# Altium schematic symbol library Devzone_SCHLib.SchLib: 1101 symbols (part 9 of 11)
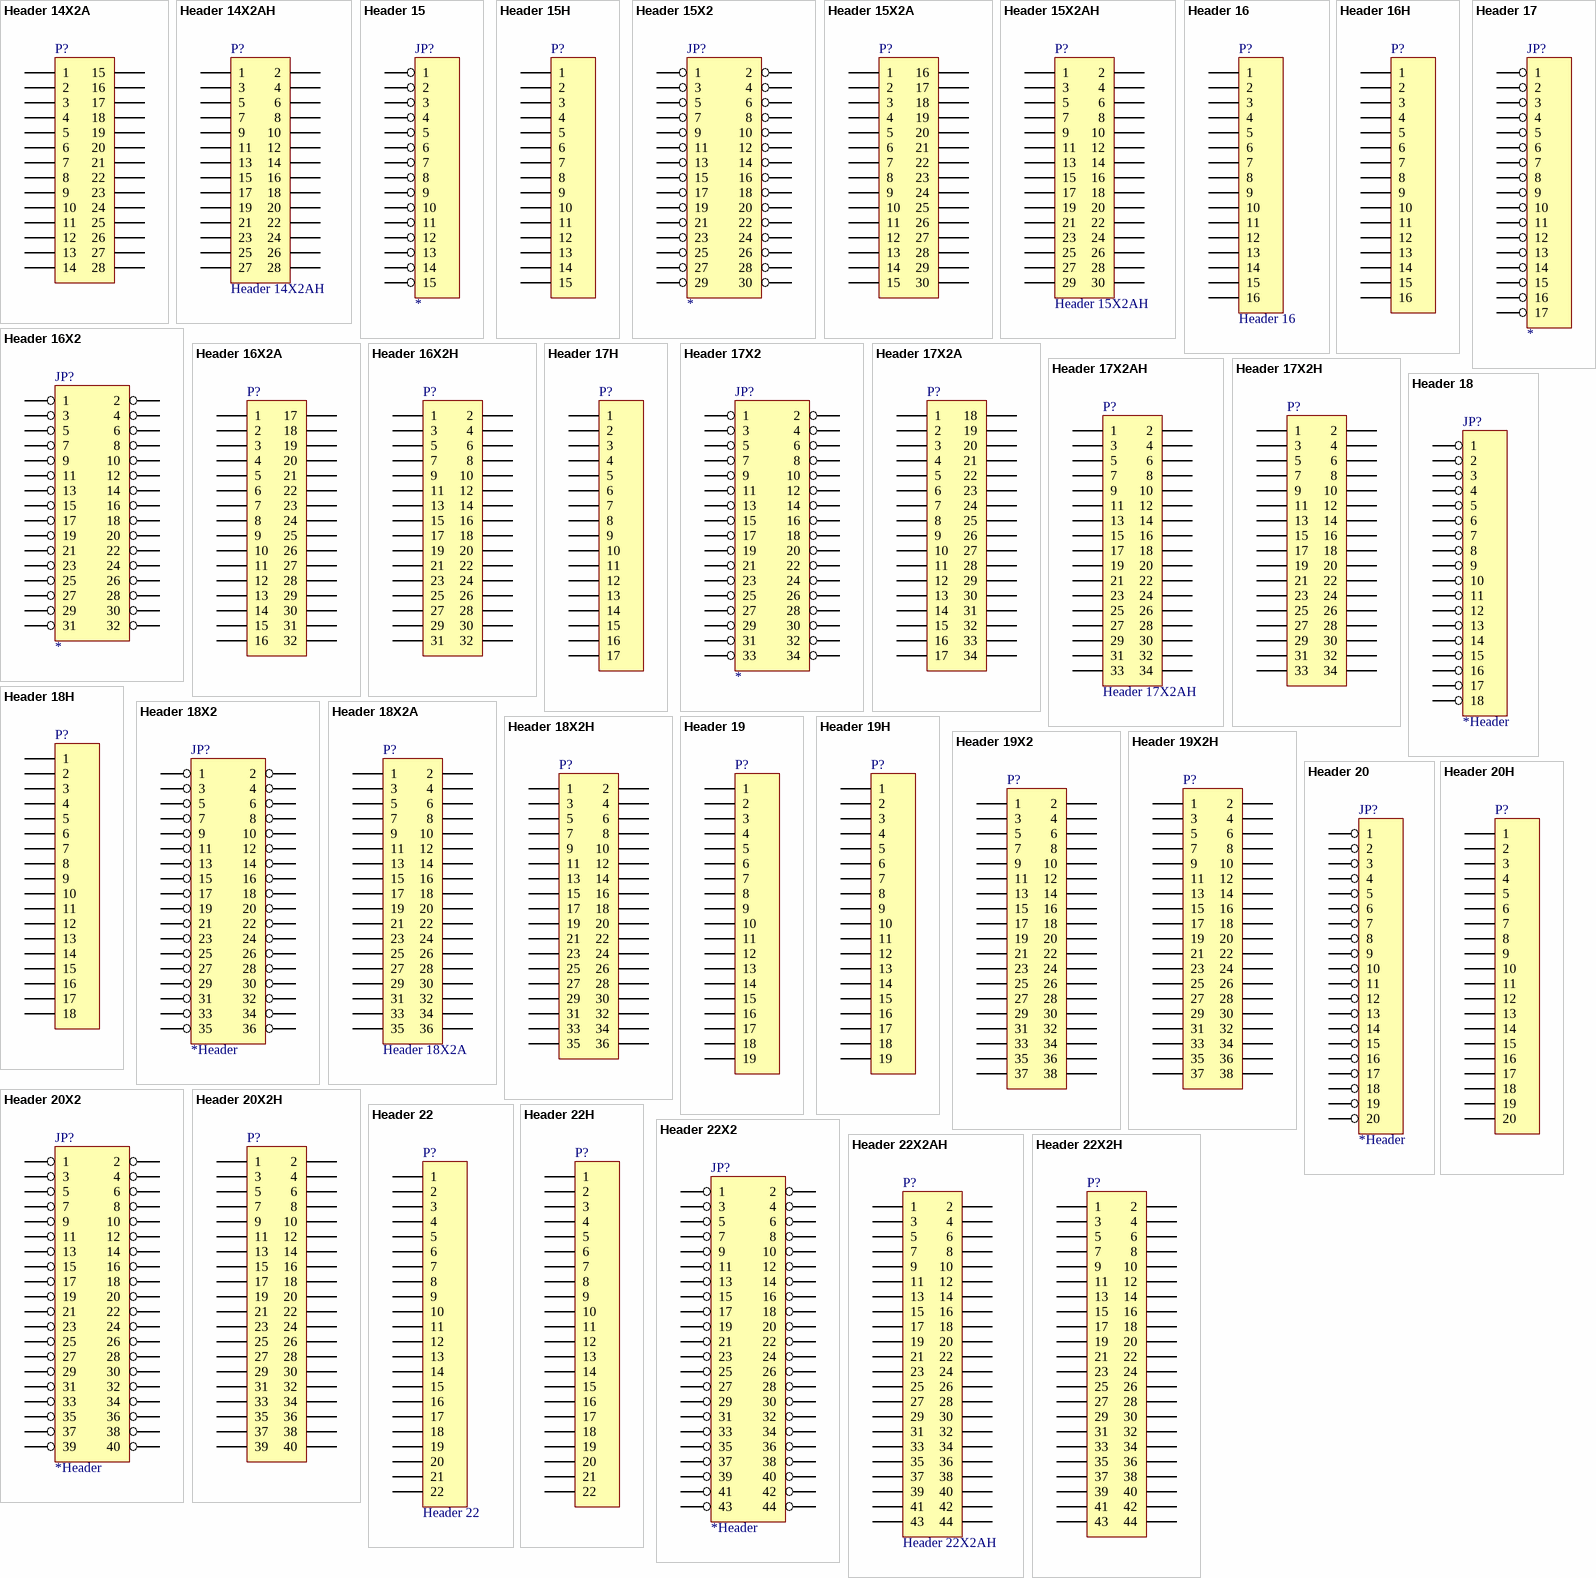
[diagram p54: symbols Header 14X2A to Header 22X2H]

## Header 20
designator JP?, comment *Header
Header, 20-Pin, Right Angle
pins: 1, 2, 3, 4, 5, 6, 7, 8, 9, 10, 11, 12, 13, 14, 15, 16, 17, 18, 19, 20

## Header 20H
designator P?
Header, 20-Pin, Right Angle; LatestRevisionDate: 17-Jul-2002; LatestRevisionNote: Re-released for DXP Platform.; Publisher: Altium Limited
footprint HDR1X20H (Connector; Header; 20 Position; Right Angle)
signal-integrity model Connector
pins: 1, 2, 3, 4, 5, 6, 7, 8, 9, 10, 11, 12, 13, 14, 15, 16, 17, 18, 19, 20

## Header 20X2
designator JP?, comment *Header
Header, 20X2-Pin, Right Angle
pins: 1, 2, 3, 4, 5, 6, 7, 8, 9, 10, 11, 12, 13, 14, 15, 16, 17, 18, 19, 20, 21, 22, 23, 24, 25, 26, 27, 28, 29, 30, 31, 32, 33, 34, 35, 36, 37, 38, 39, 40

## Header 20X2H
designator P?
Header, 20-Pin, Dual row, Right Angle; LatestRevisionDate: 17-Jul-2002; LatestRevisionNote: Re-released for DXP Platform.; Publisher: Altium Limited
footprint HDR2X20H (Connector; Header; 20x2 Position; Right Angle)
signal-integrity model Connector
pins: 1, 2, 3, 4, 5, 6, 7, 8, 9, 10, 11, 12, 13, 14, 15, 16, 17, 18, 19, 20, 21, 22, 23, 24, 25, 26, 27, 28, 29, 30, 31, 32, 33, 34, 35, 36, 37, 38, 39, 40

## Header 22
designator P?
Header, 22-Pin; LatestRevisionDate: 17-Jul-2002; LatestRevisionNote: Re-released for DXP Platform.; Publisher: Altium Limited
footprint HDR1X22 (Connector; Header; 22 Position)
signal-integrity model Connector
pins: 1, 2, 3, 4, 5, 6, 7, 8, 9, 10, 11, 12, 13, 14, 15, 16, 17, 18, 19, 20, 21, 22

## Header 22H
designator P?
Header, 22-Pin, Right Angle; LatestRevisionDate: 17-Jul-2002; LatestRevisionNote: Re-released for DXP Platform.; Publisher: Altium Limited
footprint HDR1X22H (Connector; Header; 22 Position; Right Angle)
signal-integrity model Connector
pins: 1, 2, 3, 4, 5, 6, 7, 8, 9, 10, 11, 12, 13, 14, 15, 16, 17, 18, 19, 20, 21, 22

## Header 22X2
designator JP?, comment *Header
Header, 22X2-Pin, Right Angle
pins: 1, 2, 3, 4, 5, 6, 7, 8, 9, 10, 11, 12, 13, 14, 15, 16, 17, 18, 19, 20, 21, 22, 23, 24, 25, 26, 27, 28, 29, 30, 31, 32, 33, 34, 35, 36, 37, 38, 39, 40, 41, 42, 43, 44

## Header 22X2AH
designator P?
Header, 22-Pin, Dual row; LatestRevisionDate: 17-Jul-2002; LatestRevisionNote: Re-released for DXP Platform.; Publisher: Altium Limited
footprint HDR2X22 (Connector; Header; 22x2 Position)
signal-integrity model Connector
pins: 1, 2, 3, 4, 5, 6, 7, 8, 9, 10, 11, 12, 13, 14, 15, 16, 17, 18, 19, 20, 21, 22, 23, 24, 25, 26, 27, 28, 29, 30, 31, 32, 33, 34, 35, 36, 37, 38, 39, 40, 41, 42, 43, 44

## Header 22X2H
designator P?
Header, 22-Pin, Dual row, Right Angle; LatestRevisionDate: 17-Jul-2002; LatestRevisionNote: Re-released for DXP Platform.; Publisher: Altium Limited
footprint HDR2X22H (Connector; Header; 22x2 Position; Right Angle)
signal-integrity model Connector
pins: 1, 2, 3, 4, 5, 6, 7, 8, 9, 10, 11, 12, 13, 14, 15, 16, 17, 18, 19, 20, 21, 22, 23, 24, 25, 26, 27, 28, 29, 30, 31, 32, 33, 34, 35, 36, 37, 38, 39, 40, 41, 42, 43, 44

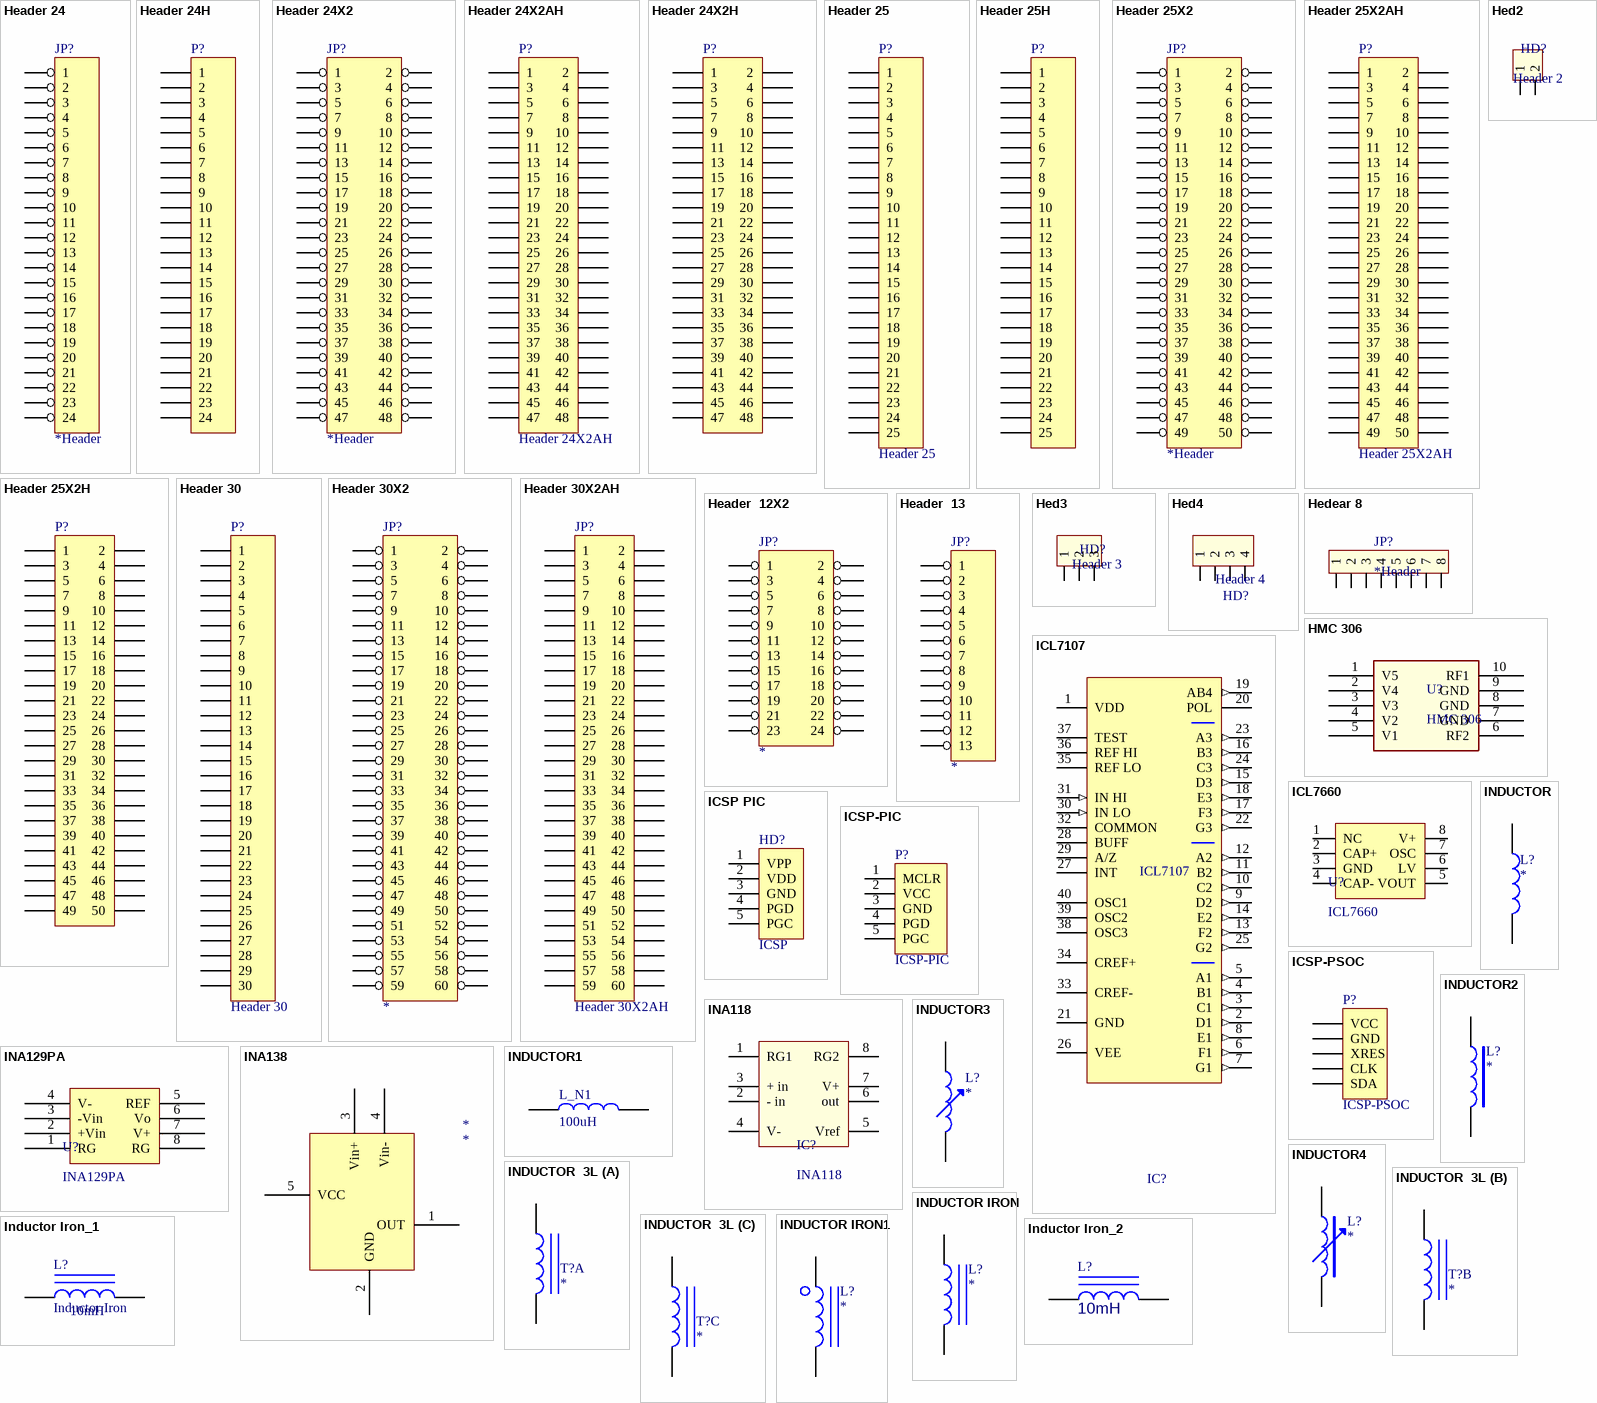
[diagram p31: symbols Header 24 to Inductor Iron_2]

## Header 24
designator JP?, comment *Header
Header, 24-Pin, Right Angle
pins: 1, 2, 3, 4, 5, 6, 7, 8, 9, 10, 11, 12, 13, 14, 15, 16, 17, 18, 19, 20, 21, 22, 23, 24

## Header 24H
designator P?
Header, 24-Pin, Right Angle; LatestRevisionDate: 17-Jul-2002; LatestRevisionNote: Re-released for DXP Platform.; Publisher: Altium Limited
footprint HDR1X24H (Connector; Header; 24 Position; Right Angle)
signal-integrity model Connector
pins: 1, 2, 3, 4, 5, 6, 7, 8, 9, 10, 11, 12, 13, 14, 15, 16, 17, 18, 19, 20, 21, 22, 23, 24

## Header 24X2
designator JP?, comment *Header
Header, 24X2-Pin, Right Angle
pins: 1, 2, 3, 4, 5, 6, 7, 8, 9, 10, 11, 12, 13, 14, 15, 16, 17, 18, 19, 20, 21, 22, 23, 24, 25, 26, 27, 28, 29, 30, 31, 32, 33, 34, 35, 36, 37, 38, 39, 40, 41, 42, 43, 44, 45, 46, 47, 48

## Header 24X2AH
designator P?
Header, 24-Pin, Dual row; LatestRevisionDate: 17-Jul-2002; LatestRevisionNote: Re-released for DXP Platform.; Publisher: Altium Limited
footprint HDR2X24 (Connector; Header; 24x2 Position)
signal-integrity model Connector
pins: 1, 2, 3, 4, 5, 6, 7, 8, 9, 10, 11, 12, 13, 14, 15, 16, 17, 18, 19, 20, 21, 22, 23, 24, 25, 26, 27, 28, 29, 30, 31, 32, 33, 34, 35, 36, 37, 38, 39, 40, 41, 42, 43, 44, 45, 46, 47, 48

## Header 24X2H
designator P?
Header, 24-Pin, Dual row, Right Angle; LatestRevisionDate: 17-Jul-2002; LatestRevisionNote: Re-released for DXP Platform.; Publisher: Altium Limited
footprint HDR2X24H (Connector; Header; 24x2 Position; Right Angle)
signal-integrity model Connector
pins: 1, 2, 3, 4, 5, 6, 7, 8, 9, 10, 11, 12, 13, 14, 15, 16, 17, 18, 19, 20, 21, 22, 23, 24, 25, 26, 27, 28, 29, 30, 31, 32, 33, 34, 35, 36, 37, 38, 39, 40, 41, 42, 43, 44, 45, 46, 47, 48

## Header 25
designator P?
Header, 25-Pin; LatestRevisionDate: 17-Jul-2002; LatestRevisionNote: Re-released for DXP Platform.; Publisher: Altium Limited
footprint HDR1X25 (Connector; Header; 25 Position)
signal-integrity model Connector
pins: 1, 2, 3, 4, 5, 6, 7, 8, 9, 10, 11, 12, 13, 14, 15, 16, 17, 18, 19, 20, 21, 22, 23, 24, 25

## Header 25H
designator P?
Header, 25-Pin, Right Angle; LatestRevisionDate: 17-Jul-2002; LatestRevisionNote: Re-released for DXP Platform.; Publisher: Altium Limited
footprint HDR1X25H (Connector; Header; 25 Position; Right Angle)
signal-integrity model Connector
pins: 1, 2, 3, 4, 5, 6, 7, 8, 9, 10, 11, 12, 13, 14, 15, 16, 17, 18, 19, 20, 21, 22, 23, 24, 25

## Header 25X2
designator JP?, comment *Header
Header, 25X2-Pin, Right Angle
pins: 1, 2, 3, 4, 5, 6, 7, 8, 9, 10, 11, 12, 13, 14, 15, 16, 17, 18, 19, 20, 21, 22, 23, 24, 25, 26, 27, 28, 29, 30, 31, 32, 33, 34, 35, 36, 37, 38, 39, 40, 41, 42, 43, 44, 45, 46, 47, 48, 49, 50

## Header 25X2AH
designator P?
Header, 25-Pin, Dual row; LatestRevisionDate: 17-Jul-2002; LatestRevisionNote: Re-released for DXP Platform.; Publisher: Altium Limited
footprint HDR2X25 (Connector; Header; 25x2 Position)
signal-integrity model Connector
pins: 1, 2, 3, 4, 5, 6, 7, 8, 9, 10, 11, 12, 13, 14, 15, 16, 17, 18, 19, 20, 21, 22, 23, 24, 25, 26, 27, 28, 29, 30, 31, 32, 33, 34, 35, 36, 37, 38, 39, 40, 41, 42, 43, 44, 45, 46, 47, 48, 49, 50

## Header 25X2H
designator P?
Header, 25-Pin, Dual row, Right Angle; LatestRevisionDate: 17-Jul-2002; LatestRevisionNote: Re-released for DXP Platform.; Publisher: Altium Limited
footprint HDR2X25H (Connector; Header; 25x2 Position; Right Angle)
signal-integrity model Connector
pins: 1, 2, 3, 4, 5, 6, 7, 8, 9, 10, 11, 12, 13, 14, 15, 16, 17, 18, 19, 20, 21, 22, 23, 24, 25, 26, 27, 28, 29, 30, 31, 32, 33, 34, 35, 36, 37, 38, 39, 40, 41, 42, 43, 44, 45, 46, 47, 48, 49, 50

## Header 30
designator P?
Header, 30-Pin; LatestRevisionDate: 17-Jul-2002; LatestRevisionNote: Re-released for DXP Platform.; Publisher: Altium Limited
footprint HDR1X30 (Connector; Header; 30 Position)
signal-integrity model Connector
pins: 1, 2, 3, 4, 5, 6, 7, 8, 9, 10, 11, 12, 13, 14, 15, 16, 17, 18, 19, 20, 21, 22, 23, 24, 25, 26, 27, 28, 29, 30

## Header 30X2
designator JP?
Header, 30X2-Pin, Right Angle
pins: 1, 2, 3, 4, 5, 6, 7, 8, 9, 10, 11, 12, 13, 14, 15, 16, 17, 18, 19, 20, 21, 22, 23, 24, 25, 26, 27, 28, 29, 30, 31, 32, 33, 34, 35, 36, 37, 38, 39, 40, 41, 42, 43, 44, 45, 46, 47, 48, 49, 50, 51, 52, 53, 54, 55, 56, 57, 58, 59, 60

## Header 30X2AH
designator JP?
Header, 30-Pin, Dual row; LatestRevisionDate: 17-Jul-2002; LatestRevisionNote: Re-released for DXP Platform.; Publisher: Altium Limited
footprint HDR2X30 (Connector; Header; 30x2 Position)
signal-integrity model Connector
pins: 1, 2, 3, 4, 5, 6, 7, 8, 9, 10, 11, 12, 13, 14, 15, 16, 17, 18, 19, 20, 21, 22, 23, 24, 25, 26, 27, 28, 29, 30, 31, 32, 33, 34, 35, 36, 37, 38, 39, 40, 41, 42, 43, 44, 45, 46, 47, 48, 49, 50, 51, 52, 53, 54, 55, 56, 57, 58, 59, 60

## Header  12X2
designator JP?
Header, 12X2-Pin, Right Angle
pins: 1, 2, 3, 4, 5, 6, 7, 8, 9, 10, 11, 12, 13, 14, 15, 16, 17, 18, 19, 20, 21, 22, 23, 24

## Header  13
designator JP?
Header, 13-Pin, Right Angle
pins: 1, 2, 3, 4, 5, 6, 7, 8, 9, 10, 11, 12, 13

## Hed2
designator HD?, comment Header 2
Header 2 (Green); Value: Header 2
footprint HED2 (Header 2, 2 pin, hight 300mil, Pin to Pin 200, Colour Green)
footprint HED2T (Header 2, 2 pin, hight 300mil, Pin to Pin 200, Colour Green)
footprint HED2B (Header 2, 2 pin, hight 300mil, Pin to Pin 150, Colour White)
pins: 1, 2

## Hed3
designator HD?, comment Header 3
Header 3 (Green); Value: Header 3
footprint HED3 (Header 3, 3 pin, hight 300mil, Pin to Pin 200)
footprint HED3T (Header 3, 3 pin, hight 300mil, Pin to Pin 200, Colour Green)
footprint HED3B (Header 3, 3 pin, hight 300mil, Pin to Pin 150, Colour White)
pins: 1, 2, 3

## Hed4
designator HD?, comment Header 4
Header 4 (Green); Value: Header 4
footprint HED4 (Header 4, 4 pin, hight 300mil, Pin to Pin 200, Colour Green)
footprint HED4T (Header 4, 4 pin, hight 300mil, Pin to Pin 200, Colour Green)
footprint HED4B (Header 4, 4 pin, hight 300mil, Pin to Pin 150, Colour White)
pins: 1, 2, 3, 4

## Hedear 8
designator JP?, comment *Header
Hedear 8; Creat by: VanDungEvn@Gmail.com
footprint HED8 (CON8)
pins: 1, 2, 3, 4, 5, 6, 7, 8

## HMC 306
designator U?
pins: 1 V5, 2 V4, 3 V3, 4 V2, 5 V1, 6 RF2, 7 GND, 8 GND, 9 GND, 10 RF1

## ICL7107
designator IC?
Dipslay voltage 0 - 1999; Value: ICL7107
footprint DIP40/W0.6 (40 PIN, W 600mil, Pin to pin 100mil)
pins: 1 VDD (power), 2 D1 (out), 3 C1 (out), 4 B1 (out), 5 A1 (out), 6 F1 (out), 7 G1 (out), 8 E1 (out), 9 D2 (out), 10 C2 (out), 11 B2 (out), 12 A2 (out), 13 F2 (out), 14 E2 (out), 15 D3 (out), 16 B3 (out), 17 F3 (out), 18 E3 (out), 19 AB4 (out), 20 POL, 21 GND (power), 22 G3 (out), 23 A3 (out), 24 C3 (out), 25 G2 (out), 26 VEE (power), 27 INT, 28 BUFF, 29 A/Z, 30 IN LO (in), 31 IN HI (in), 32 COMMON, 33 CREF-, 34 CREF+, 35 REF LO, 36 REF HI, 37 TEST, 38 OSC3, 39 OSC2, 40 OSC1

## ICL7660
designator U?
CMOS Voltage Converters; Creator: Nguyen Ba Bien
footprint DIP.100/8/W.300/L.400
pins: 1 NC, 2 CAP+, 3 GND, 4 CAP-, 5 VOUT, 6 LV, 7 OSC, 8 V+

## ICSP PIC
designator HD?, comment ICSP
Header, 5-Pin; LatestRevisionDate: 17-Jul-2002; LatestRevisionNote: Re-released for DXP Platform.; Publisher: Altium Limited
footprint ICSP HEADER (ICSP HEADER 1X5)
signal-integrity model Connector
footprint ICSP (ICSP HEADER 1X5)
footprint ICSP MILL MAX PAD (ICSP HEADER 1X5 PIC PENTAGON SMD)
footprint ICSP MILL MAX PIN (ICSP HEADER 1X5 PIC PENTAGON SMD)
footprint ICSP HDR1X5H
footprint icspx pad
footprint ICSPX padx
pins: 1 VPP, 2 VDD, 3 GND, 4 PGD, 5 PGC

## ICSP-PIC
designator P?
Header, 5-Pin; LatestRevisionDate: 17-Jul-2002; LatestRevisionNote: Re-released for DXP Platform.; Publisher: Altium Limited
footprint HDR1X5 (Connector; Header; 5 Position)
signal-integrity model Connector
pins: 1 MCLR, 2 VCC, 3 GND, 4 PGD, 5 PGC

## ICSP-PSOC
designator P?
ICSP 5 pin - PSoC; LatestRevisionDate: 17-Jul-2002; LatestRevisionNote: Re-released for DXP Platform.; Publisher: Altium Limited
footprint HDR1X5 (Connector; Header; 5 Position)
signal-integrity model Connector
pins: 1 VCC, 2 GND, 3 XRES, 4 CLK, 5 SDA

## INA118
designator IC?
Precision, Low Power  INSTRUMENTATION AMPLIFIER; Designed by: VanDungEvn; Value: INA118
footprint DIP8/W0.3 (8 PIN, W 300mil, Pin to pin 100mil)
pins: 1 RG1, 2 - in, 3 + in, 4 V-, 5 Vref, 6 out, 7 V+, 8 RG2

## INA129PA
designator U?
footprint DIP8 (W.300/L.400)
pins: 1 RG, 2 +Vin, 3 -Vin, 4 V-, 5 REF, 6 Vo, 7 V+, 8 RG

## INA138
designator *
footprint sop23-5
pins: 1 OUT, 2 GND, 3 Vin+, 4 Vin-, 5 VCC

## INDUCTOR
designator L?
footprint CDRH3D16
pins: 1, 2

## INDUCTOR1
designator L_N1, comment 100uH
footprint 100UH
pins: 1, 2

## INDUCTOR2
designator L?
pins: 1, 2

## INDUCTOR3
designator L?
pins: 1, 2

## INDUCTOR4
designator L?
pins: 1, 2

## INDUCTOR  3L
designator T?
footprint INCOMPACT
part A pins: 1, 2
part B pins: 3, 4
part C pins: 5, 6

## INDUCTOR IRON
designator L?
pins: 1, 2

## INDUCTOR IRON1
designator L?
footprint DIEN TRO 1W (tube) (Dien tro 1W hinh ong)
pins: 1, 2

## Inductor Iron_1
designator L?, comment Inductor Iron  value 10mH
Magnetic-Core Inductor; Published: 24-Mar-1999; LatestRevisionDate: 17-Jul-2002; LatestRevisionNote: Re-released for DXP Platform.; PackageReference: AXIAL-0.9; Publisher: Altium Limited
footprint INDUCTOR COMPACT
footprint INDUCTOR COMPACT 11w
pins: 1, 2 hidden, 3 hidden, 4

## Inductor Iron_2
designator L?, comment value 10mH  (hidden comment: Inductor Iron)
Magnetic-Core Inductor; Published: 24-Mar-1999; LatestRevisionDate: 17-Jul-2002; LatestRevisionNote: Re-released for DXP Platform.; PackageReference: AXIAL-0.9; Publisher: Altium Limited
footprint AXIAL-0.9 (Magnetic-Core Inductor; 2 Leads)
simulation model INDUCTOR (Inductor)
signal-integrity model Inductor Iron
footprint inductor 1210 (1210)
footprint inductor 0805 (0805)
footprint inductor 1007 (1007)
footprint inductor 1206 (1206)
footprint inductor CDRH2D09 (CDRH2D09)
footprint inductor CDRH3D28 (CDRH3D28)
footprint inductor SRU1038 (SRU1038)
footprint inductor CR75_V2 (CR75_V2)
footprint inductor C0402 (C0402)
footprint INDUCTOR .2 RAD
footprint INDUCTOR NR10050 (NR10050T100M)
footprint INDUCTOR 0.5
footprint INDUCTOR 0.5 LP (INDUCTOR 0.5)
footprint INDUCTOR SOLAR
footprint INDUCTOR TOROID (INDUCTOR TOROID ID 306 MIL, OD 990 MIL, 325 MIL THICK)
footprint INDUCTOR NR10050 SOLAR (NR10050T100M SOLAR)
footprint INDUCTOR TOROID 625 MIL OD
footprint INDUCTOR TOROID 625 MIL OD STAND
pins: 1, 2

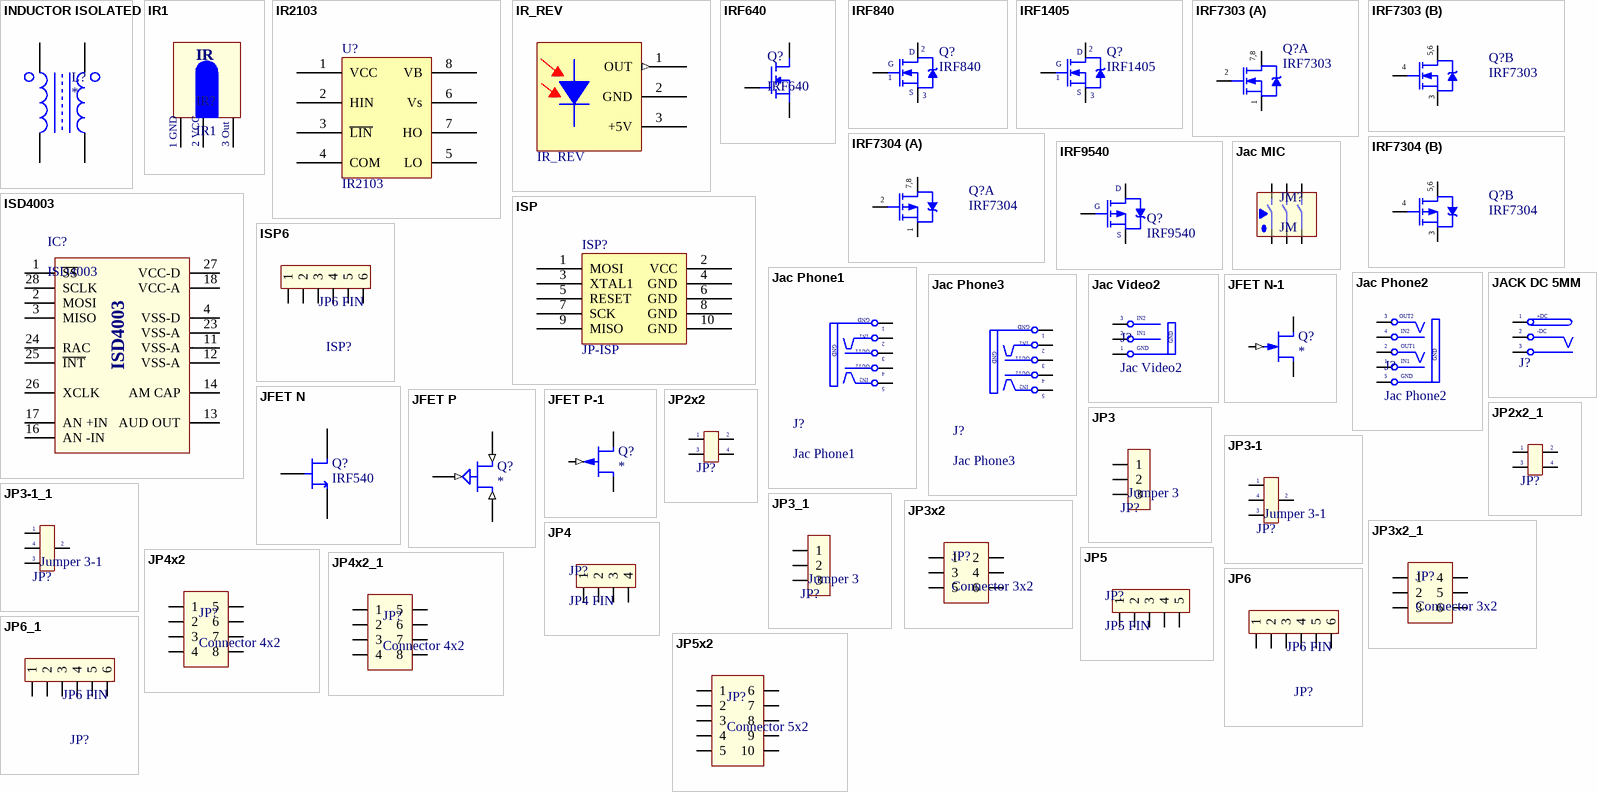
[diagram p32: symbols INDUCTOR ISOLATED to JP6_1]

## INDUCTOR ISOLATED
designator L?
footprint INDUCTOR COMPACT
pins: 1, 2, 3, 4

## IR1
designator IR?
Receiver Infraed IC
footprint IR (Receiver Infared IC)
pins: 1 Out, 2 GND, 3 VCC
text: IR; 1 GND; 2 VCC; 3 Out

## IR2103
designator U?
footprint dip8
pins: 1 VCC, 2 HIN, 3 ~{LIN}, 4 COM, 5 LO, 6 Vs, 7 HO, 8 VB

## IR_REV
designator IR?
IR_REV: IR_REV
footprint IR (Receiver Infared IC)
pins: 1 OUT (out), 2 GND (power), 3 +5V (power) "VCC"

## IRF640
designator Q?
footprint TO220AB (TO, Thru-Hole, Vertical, Heatsink Mounted; 3 In-Line Leads; Pitch 2.54 mm; Pin sequence 1, 3, 2)
pins: 1 G, 2 D, 3 S

## IRF840
designator Q?
MOSFET N - CHANNEL 500V - 0.75 - 8A - TO-220; Value: IRF840
footprint QTO-220 (TO-220 - 1-2-3)
pins: 1 G, 2 D, 3 S

## IRF1405
designator Q?
MOSFET N - CHANNEL 500V - 0.75 - 8A - TO-220; Value: IRF1405
footprint QTO-220 (TO-220 - 1-2-3)
pins: 1 G, 2 D, 3 S

## IRF7303
designator Q?
HEXFET Power MOSFET; Published: 8-Jun-2000; LatestRevisionDate: 13-Apr-2006; LatestRevisionNote: IPC-7351 Footprint Added.; DatasheetVersion: Aug-1997; PackageVersion: Feb-2001; PackageReference: SO-8; Publisher: Altium Limited; PackageDescription: 8-Pin Plastic Small Outline Integrated Circuit 1.27 mm Pitch; Code_JEDEC: MS-012-AA; Code_IPC: SOIC127P600-8; ComponentLink1Description: Manufacturer Link; ComponentLink1URL: http://www.irf.com/; ComponentLink2Description: Datasheet; ComponentLink2URL: http://www.irf.com/product-info/datasheets/data/irf7303.pdf
footprint SO-8 (8-Pin Small Outline Integrated Circuit 1.27 mm Pitch, IPC Medium Density)
simulation model IRF7303 (SUBCKT)
part A pins: 1 S, 2 G, 7 D, 8 D
part B pins: 3 S, 4 G, 5 D, 6 D
part A text: 7,8
part B text: 5,6

## IRF7304
designator Q?
HEXFET Power MOSFET; Published: 8-Jun-2000; LatestRevisionDate: 13-Apr-2006; LatestRevisionNote: IPC-7351 Footprint Added.; DatasheetVersion: Aug-1997; PackageVersion: Feb-2001; PackageReference: SO-8; Publisher: Altium Limited; PackageDescription: 8-Pin Plastic Small Outline Integrated Circuit 1.27 mm Pitch; Code_JEDEC: MS-012-AA; Code_IPC: SOIC127P600-8; ComponentLink1Description: Manufacturer Link; ComponentLink1URL: http://www.irf.com/; ComponentLink2Description: Datasheet; ComponentLink2URL: http://www.irf.com/product-info/datasheets/data/irf7304.pdf
footprint SO-8 (8-Pin Small Outline Integrated Circuit 1.27 mm Pitch, IPC Medium Density)
simulation model IRF7304 (SUBCKT)
part A pins: 1 S, 2 G, 7 D, 8 D
part B pins: 3 S, 4 G, 5 D, 6 D
part A text: 7,8
part B text: 5,6

## IRF9540
designator Q?
HEXFET P-Channel Power MOSFET; Note: Pin 2 is electrically connected to pin 4.; Published: 8-Jun-2000; LatestRevisionDate: 17-Jul-2002; LatestRevisionNote: Re-released for DXP Platform.; DatasheetVersion: PD-9.421C; PackageVersion: Feb-1997; PackageReference: TO-220AB; Publisher: Altium Limited; PackageDescription: TO, Thru-Hole, Vertical, Heatsink Mounted; 3 In-Line Leads; Pitch 2.54 mm; ComponentLink1Description: Manufacturer Link; ComponentLink1URL: http://www.irf.com/; ComponentLink2Description: Datasheet; ComponentLink2URL: http://www.irf.com/product-info/datasheets/data/irf9540.pdf
footprint QTO-220 (TO-220 - 1-2-3)
simulation model IRF9540 (SUBCKT)
pins: 1 G, 2 D, 3 S

## ISD4003
designator IC?
Single-chip voice Record/Playback solution
footprint DIP28/W0.6 (DIP28/W.600, Pin to pin 100mil)
pins: 1 ~{SS}, 2 MOSI, 3 MISO, 4 VSS-D, 11 VSS-A, 12 VSS-A, 13 AUD OUT, 14 AM CAP, 16 AN -IN, 17 AN +IN, 18 VCC-A, 23 VSS-A, 24 RAC, 25 ~{INT}, 26 XCLK, 27 VCC-D, 28 SCLK

## ISP
designator ISP?, comment JP-ISP
ISP 10 PIN
footprint HDR2X5
pins: 1 MOSI, 2 VCC (power), 3 XTAL1, 4 GND, 5 RESET, 6 GND, 7 SCK, 8 GND, 9 MISO, 10 GND

## ISP6
designator ISP?, comment JP6 PIN
ISP6 PIN; Value: JP7
footprint ISP6 (Jac nap PIC)
pins: 1, 2, 3, 4, 5, 6, 7, 8

## Jac MIC
designator JM?, comment JM
Jac Micro; Value: Jac MIC to 6 pin
footprint MIC6 (Footprint not found)
pins: 1, 2, 3, 4, 5, 6

## Jac Phone1
designator J?
Jac Phone Stereo; Creat by: VanDungEvn@Gmail.com
footprint JacPhone2 (Jac Phone Stereo)
footprint JAC_PHONE2 (Jac Phone Stereo)
pins: 1 GND "Tip", 2 S1 (power) "Sleeve (Ground)", 3 S1 "Tip Normal (Break Contact)", 4 S (power) "Sleeve (Ground)", 5 TN "Tip Normal (Break Contact)"
text: IN1; OUT1; OUT2; IN2

## Jac Phone2
designator J?
Jac Phone Stereo; Creat by: VanDungEvn@Gmail.com
footprint JacPhone2 (Jac Phone Stereo)
footprint JAC_PHONE2 (Jac Phone Stereo)
pins: 1 S1 (power) "Sleeve (Ground)", 2 S1 "Tip Normal (Break Contact)", 3 TN "Tip Normal (Break Contact)", 4 S (power) "Sleeve (Ground)", 5 GND "Tip"
text: OUT2; IN2; OUT1; IN1

## Jac Phone3
designator J?
Jac Phone Stereo; Creat by: VanDungEvn@Gmail.com
footprint JacPhone2 (Jac Phone Stereo)
footprint JAC_PHONE2 (Jac Phone Stereo)
pins: 1 GND "Tip", 2 S1 (power) "Sleeve (Ground)", 3 S1 "Tip Normal (Break Contact)", 4 S (power) "Sleeve (Ground)", 5 TN "Tip Normal (Break Contact)"
text: IN1; OUT1; OUT2; IN2

## Jac Video2
designator J?
Jac Video Stereo
footprint Jac Video2 (Footprint not found)
pins: 1 GND "Tip", 2 S1 (power) "Sleeve (Ground)", 3 S2 "Tip Normal (Break Contact)"
text: IN2; IN1

## JACK DC 5MM
designator J?  (value not drawn)
footprint JACK DC 5MM
pins: 1 T "Tip", 2 TN "Tip Normal (Break Contact)", 3 S (power) "Sleeve (Ground)"
text: +DC; -DC

## JFET N
designator Q?, comment IRF540
footprint TO220
pins: 1 G, 2 D, 3 S

## JFET N-1
designator Q?
Value: 2N5484  2N5485  2N5486
pins: 1 GATE (in), 2 DRAIN, 3 SOURCE

## JFET P
designator Q?
pins: 1 G (in), 2 D (in), 3 S (in)

## JFET P-1
designator Q?
pins: 1 GATE (in), 2 DRAIN, 3 SOURCE

## JP2x2
designator JP?, comment Jumper 2x2  (value not drawn)
Value: JP 2x2
footprint JP2X2
pins: 1, 2, 3, 4

## JP2x2_1
designator JP?, comment Jumper 2x2  (value not drawn)
Value: JP 2x2
footprint J2-2 (Jumper 4)
pins: 1, 2, 3, 4

## JP3
designator JP?, comment Jumper 3
Value: J3
footprint JP3 (Jumper 3)
footprint JP3H
footprint JP3_1 (Jumper 3)
pins: 1, 2, 3

## JP3-1
designator JP?, comment Jumper 3-1
Value: J3-1
footprint J3-1 (Jumper 4)
pins: 1, 2, 3, 4

## JP3-1_1
designator JP?, comment Jumper 3-1
Value: J3-1
footprint J3-1 (Jumper 4)
pins: 1, 2, 3, 4

## JP3_1
designator JP?, comment Jumper 3
Value: J3
footprint JP3 (Jumper 3)
pins: 1, 2, 3

## JP3x2
designator JP?, comment Connector 3x2
Value: Connector 3x2
footprint JP3x2 (Connector 3x2)
footprint JP3x2_1 (Connector 3x2)
footprint JP4x2_3 (Connector 4x2)
footprint JP3x2_2 (Connector 3x2)
pins: 1, 2, 3, 4, 5, 6

## JP3x2_1
designator JP?, comment Connector 3x2
Value: Connector 3x2
footprint JP3x2 (Connector 3x2)
pins: 1, 2, 3, 4, 5, 6

## JP4
designator JP?, comment JP4 PIN
Value: JP4
footprint JP4 (Jumper 4)
footprint JP4_1 (Jumper 4)
footprint JP4H (Jumper 4)
footprint JP4_2 (Jumper 4)
pins: 1, 2, 3, 4

## JP4x2
designator JP?, comment Connector 4x2
Value: Connector 4x2
footprint JP4x2 (Connector 4x2)
footprint JP4x2_1 (Connector 4x2)
pins: 1, 2, 3, 4, 5, 6, 7, 8

## JP4x2_1
designator JP?, comment Connector 4x2
Value: Connector 4x2
footprint JP4x2 (Connector 4x2)
footprint JP4x2_3 (Connector 4x2)
pins: 1, 2, 3, 4, 5, 6, 7, 8

## JP5
designator JP?, comment JP5 PIN
Value: JP5
footprint JP5
footprint JP5H
footprint JP5_1 (JP5)
footprint JP5_2 (JP5)
pins: 1, 2, 3, 4, 5

## JP5x2
designator JP?, comment Connector 5x2
Value: Connector 5x2
footprint JP5X2
footprint JP5X2_2
footprint JP5X2_3
pins: 1, 2, 3, 4, 5, 6, 7, 8, 9, 10

## JP6
designator JP?, comment JP6 PIN
Value: JP7
footprint JP6
footprint JP6H
footprint JP6_1 (JP6)
footprint JP6_2 (JP6)
pins: 1, 2, 3, 4, 5, 6

## JP6_1
designator JP?, comment JP6 PIN
Value: JP7
footprint JP6
pins: 1, 2, 3, 4, 5, 6

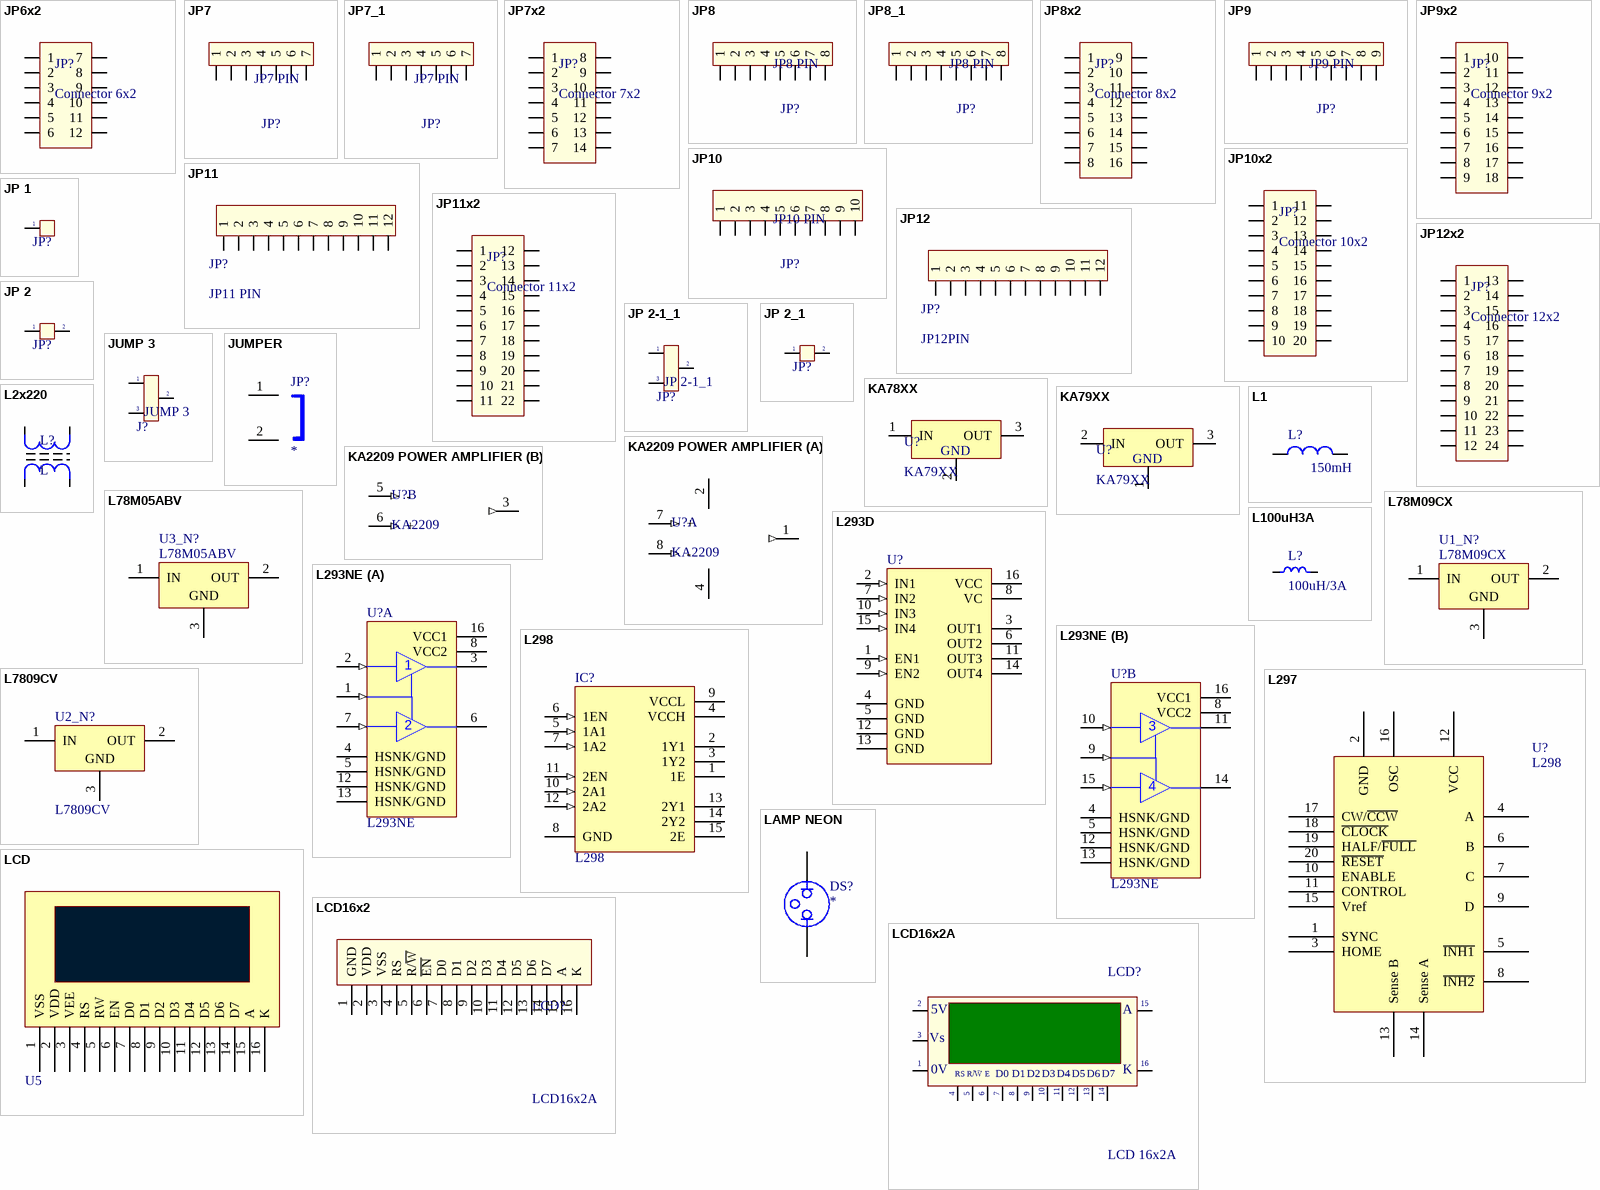
[diagram p33: symbols JP6x2 to LCD16x2A]

## JP6x2
designator JP?, comment Connector 6x2
Value: Connector 6x2
footprint JP6X2
footprint JP6X2_1
footprint JP6X2_3
footprint JP6X2_2
pins: 1, 2, 3, 4, 5, 6, 7, 8, 9, 10, 11, 12

## JP7
designator JP?, comment JP7 PIN
Value: JP7
footprint JP7
footprint JP7H
footprint JP7_1 (JP7)
footprint JP7_2 (JP7)
pins: 1, 2, 3, 4, 5, 6, 7

## JP7_1
designator JP?, comment JP7 PIN
Value: JP7
footprint JP7
pins: 1, 2, 3, 4, 5, 6, 7

## JP7x2
designator JP?, comment Connector 7x2
Value: Connector 7x2
footprint JP7X2
footprint JP7X2_1
footprint JP7X2_2
footprint JP7X2_3
pins: 1, 2, 3, 4, 5, 6, 7, 8, 9, 10, 11, 12, 13, 14

## JP8
designator JP?, comment JP8 PIN
Value: JP7
footprint JP8
footprint JP8H
footprint JP8_1 (JP8)
footprint JP8_2 (JP8)
pins: 1, 2, 3, 4, 5, 6, 7, 8

## JP8_1
designator JP?, comment JP8 PIN
Value: JP7
footprint JP8
pins: 1, 2, 3, 4, 5, 6, 7, 8

## JP8x2
designator JP?, comment Connector 8x2
Value: Connector 8x2
footprint JP8X2
footprint JP8X2_1
footprint JP8X2_2
footprint JP8X2_3
pins: 1, 2, 3, 4, 5, 6, 7, 8, 9, 10, 11, 12, 13, 14, 15, 16

## JP9
designator JP?, comment JP9 PIN
Value: JP9
footprint JP9
footprint JP9_1
footprint JP9_2 (JP9)
footprint JP9H (JP9)
pins: 1, 2, 3, 4, 5, 6, 7, 8, 9

## JP9x2
designator JP?, comment Connector 9x2
Value: Connector 9x2
footprint JP9X2
footprint JP9X2_1
footprint JP9X2_2
footprint JP9X2_3
pins: 1, 2, 3, 4, 5, 6, 7, 8, 9, 10, 11, 12, 13, 14, 15, 16, 17, 18

## JP10
designator JP?, comment JP10 PIN
Value: JP10
footprint JP10
footprint JP10_1
footprint JP10H (JP10)
footprint JP10_2 (JP10)
pins: 1, 2, 3, 4, 5, 6, 7, 8, 9, 10

## JP10x2
designator JP?, comment Connector 10x2
Value: Connector 10x2
footprint JP10X2
footprint JP10X2_1
footprint JP10X2_2
footprint JP10X2_3
pins: 1, 2, 3, 4, 5, 6, 7, 8, 9, 10, 11, 12, 13, 14, 15, 16, 17, 18, 19, 20

## JP11
designator JP?, comment JP11 PIN
Value: JP11
footprint JP11
footprint JP11_1
footprint JP11_2 (JP11)
footprint JP11H (JP11)
pins: 1, 2, 3, 4, 5, 6, 7, 8, 9, 10, 11, 12

## JP11x2
designator JP?, comment Connector 11x2
Value: Connector 11x2
footprint JP11X2
footprint JP11X2_1
footprint JP11X2_2
footprint JP11X2_3
pins: 1, 2, 3, 4, 5, 6, 7, 8, 9, 10, 11, 12, 13, 14, 15, 16, 17, 18, 19, 20, 21, 22

## JP12
designator JP?, comment JP12PIN
JP12 PIN; Value: JP12
footprint JP12_1 (JP12)
footprint JP12
footprint JP11H (JP11)
footprint JP12_2 (JP12)
pins: 1, 2, 3, 4, 5, 6, 7, 8, 9, 10, 11, 12

## JP12x2
designator JP?, comment Connector 12x2
Value: Connector 12x2
footprint JP12X2
footprint JP12X2_1
footprint JP12X2_2
footprint JP12X2_3
pins: 1, 2, 3, 4, 5, 6, 7, 8, 9, 10, 11, 12, 13, 14, 15, 16, 17, 18, 19, 20, 21, 22, 23, 24

## JP 1
designator JP?, comment Jumper 1  (value not drawn)
Value: JP 1
footprint HEAD1 (Connector Socket with header, Single-row 1-position, 0.100" pitch)
pins: 1

## JP 2
designator JP?, comment Jumper 2  (value not drawn)
Value: JP 2
footprint JP2
footprint jp2h
footprint JP2_1
pins: 1, 2

## JP 2-1_1
designator JP?
Jumper 2-1; Value: J2-1
footprint JP3 (Jumper 3)
pins: 1, 2, 3

## JP 2_1
designator JP?, comment Jumper 2  (value not drawn)
Value: JP 2
footprint J2 (Jum select vdd or gnd)
pins: 1, 2

## JUMP 3
designator J?
Value: J2-1
footprint JP3 (Jumper 3)
pins: 1, 2, 3

## JUMPER
designator JP?
Jumper
footprint RAD0.2
pins: 1, 2

## KA78XX
designator U?, comment KA79XX
1A Regulator
footprint TO-220
pins: 1 IN, 2, 3 OUT
text: GND

## KA79XX
designator U?
1A Regulator
footprint TO-220
pins: 1, 2 IN, 3 OUT
text: GND

## KA2209 POWER AMPLIFIER
designator U?, comment KA2209
Value: KA2209 POWER AMPLIFIER
footprint DIP8/W0.3 (8 PIN, W 300mil, Pin to pin 100mil)
part A pins: 1 OUT 1 (out), 2 Vcc (power), 4 GND (power), 7 + (in), 8 - (in)
part B pins: 3 OUT 2 (out), 5 - (in), 6 + (in)

## L1
designator L?, comment 150mH
Inductor; Value: 150 mH
footprint L/0.4 (Inductor , 2 Pin, L 350mil, W 150 mil)
footprint L01 (Inductor)
pins: 1, 2

## L2x220
designator L?, comment L
Inductor; Value: Loc 220; Designed by: VanDungEvn
footprint L2x220
pins: 1, 2, 3, 4

## L78M05ABV
designator U3_N?
Precision 500mA Regulator; Note: Tab is connected to pin 3 (GND).; Published: 24-Aug-2001; LatestRevisionDate: 17-Jul-2002; LatestRevisionNote: Re-released for DXP Platform.; DatasheetVersion: Mar-1997; PackageReference: TO220V; Publisher: Altium Limited; PackageDescription: TO, Thru-Hole, Vertical, Heatsink Mounted; 3 In-Line Leads; Pitch 2.54 mm; Pin sequence 1, 3, 2; ComponentLink1Description: Manufacturer Link; ComponentLink1URL: http://www.st.com/; ComponentLink2Description: Datasheet; ComponentLink2URL: http://www.st.com/stonline/products/literature/ds/2147/l78m05ab.pdf
footprint HDR1x3 BIG (3 chan cam 7805, BJT to, FET to...)
pins: 1 IN (power), 2 OUT (power), 3 GND (power)

## L78M09CX
designator U1_N?
Positive Voltage Regulator; Note: Tab is connected to pin 3 (GND).; Published: 24-Aug-2001; LatestRevisionDate: 17-Jul-2002; LatestRevisionNote: Re-released for DXP Platform.; DatasheetVersion: Apr-1994; PackageReference: SOT82C; Publisher: Altium Limited; PackageDescription: SIP; 3 Leads; Body 10.9 x 7.6 x 2.6 mm (typ); Pitch 2.2 mm; ComponentLink1Description: Manufacturer Link; ComponentLink1URL: http://www.st.com/; ComponentLink2Description: Datasheet; ComponentLink2URL: http://www.st.com/stonline/products/literature/ds/2146/l78m05c.pdf
footprint HDR1x3 BIG (3 chan cam 7805, BJT to, FET to...)
pins: 1 IN (power), 2 OUT (power), 3 GND (power)

## L100uH3A
designator L?, comment 100uH/3A
Cuon cam
footprint L100uH3A (100uH3A)
pins: 1, 2

## L293D
designator U?
Push-Pull Four Channel Driver With Diode; Published: 8-Jun-2000; LatestRevisionDate: 06-Jun-2005; LatestRevisionNote: Stylized 3D Model Added.; DatasheetVersion: Jun-1996; PackageVersion: Apr-1996; PackageReference: DIP16; Publisher: Altium Limited; PackageDescription: DIP; 16 Leads; Row Spacing 7.62 mm; Pitch 2.54 mm; ComponentLink1Description: Manufacturer Link; ComponentLink1URL: http://www.st.com/; ComponentLink2Description: Datasheet; ComponentLink2URL: http://www.st.com/stonline/products/literature/ds/1330/l293d.pdf
footprint DIP.100/16/W.300/L.900
pins: 1 EN1 (in), 2 IN1 (in), 3 OUT1 (hiz), 4 GND (power), 5 GND (power), 6 OUT2 (hiz), 7 IN2 (in), 8 VC (power), 9 EN2 (in), 10 IN3 (in), 11 OUT3 (hiz), 12 GND (power), 13 GND (power), 14 OUT4 (hiz), 15 IN4 (in), 16 VCC (power)

## L293NE
designator U?
Quadruple Half-H Driver; Published: 15-May-2002; LatestRevisionDate: 04-Mar-2005; LatestRevisionNote: Stylized 3D Model Added.; DatasheetVersion: May-1990; PackageVersion: 1991; PackageReference: NE016; Publisher: Altium Limited; PackageDescription: DIP; 16 Leads; Row Spacing 7.62 mm; Pitch 2.54 mm; Code_JEDEC: MS-001-BB; ComponentLink1Description: Manufacturer Link; ComponentLink1URL: http://www.ti.com/; ComponentLink2Description: Datasheet; ComponentLink2URL: http://www-s.ti.com/sc/ds/l293.pdf
footprint DIP16/W0.3 (16 PIN, W 300mil, Pin to pin 100mil)
pins on every part: 4 HSNK/GND (power), 5 HSNK/GND (power), 8 VCC2 (power), 12 HSNK/GND (power), 13 HSNK/GND (power), 16 VCC1 (power)
part A pins: 1 1,2EN (in), 2 1A (in), 3 1Y (hiz), 6 2Y (hiz), 7 2A (in)
part B pins: 9 3,4EN (in), 10 3A (in), 11 3Y (hiz), 14 4Y (hiz), 15 4A (in)

## L297
designator U?, comment L298
Drive Step Motor
footprint DIP20
pins: 1 SYNC, 2 GND, 3 HOME, 4 A, 5 ~{INH1}, 6 B, 7 C, 8 ~{INH2}, 9 D, 10 ENABLE, 11 CONTROL, 12 VCC, 13 Sense B, 14 Sense A, 15 Vref, 16 OSC, 17 CW/~{CCW}, 18 ~{CLOCK}, 19 HALF/~{FULL}, 20 ~{RESET}

## L298
designator IC?
Dual Full-H Driver Step Moto; Note: The tab is elec is connected to GND pin; Published: 15-May-2002; DatasheetVersion: Jun-1990; PackageReference: KV015; Publisher: Altium Limited; PackageDescription: TO, Thru-Hole, Vertical, Heatsink Mounted; 15 Bent Staggered Leads; Pitch 1.27 mm; ComponentLink1Description: Manufacturer Link; ComponentLink1URL: http://www.ti.com/
footprint DIP15SL2 (TO, Thru-Hole, Vertical, Heatsink Mounted; 15 Bent Staggered Leads; Pitch 1.27 mm)
footprint TDA7294
pins: 1 1E, 2 1Y1 (hiz), 3 1Y2 (hiz), 4 VCCH (power), 5 1A1 (in), 6 1EN (in), 7 1A2 (in), 8 GND (power), 9 VCCL (power), 10 2A1 (in), 11 2EN (in), 12 2A2 (in), 13 2Y1 (hiz), 14 2Y2 (hiz), 15 2E

## L7809CV
designator U2_N?
Positive Voltage Regulator; Note: Tab is connected to pin 3 (GND).; Published: 24-Aug-2001; LatestRevisionDate: 17-Jul-2002; LatestRevisionNote: Re-released for DXP Platform.; DatasheetVersion: Dec-1998; PackageVersion: Jun-1998; PackageReference: TO220ABN; Publisher: Altium Limited; PackageDescription: TO, Thru-Hole, Vertical, Heatsink Mounted; 3 In-Line Leads; Pitch 2.54 mm; Pin sequence 1, 3, 2; ComponentLink1Description: Manufacturer Link; ComponentLink1URL: http://www.st.com/
footprint HDR1x3 BIG (3 chan cam 7805, BJT to, FET to...)
pins: 1 IN (power), 2 OUT (power), 3 GND (power)

## LAMP NEON
designator DS?
pins: 1, 2

## LCD
designator U5  (value not drawn)
Value: LCD16x2
footprint LCD16X2 (LCD dipslay 16x2, 16 pin)
pins: 1 VSS, 2 VDD, 3 VEE, 4 RS, 5 RW, 6 EN, 7 D0, 8 D1, 9 D2, 10 D3, 11 D4, 12 D5, 13 D6, 14 D7, 15 A, 16 K

## LCD16x2
designator LCD?, comment LCD16x2A
LCD dipslay 16 char, 2 line; Value: LCD16x2A
footprint LCD16X2N (LCD dipslay 16x2, 16 pin)
footprint LCD16X2 (LCD dipslay 16x2, 16 pin)
pins: 1 GND, 2 VDD, 3 VSS, 4 RS, 5 R/~{W}, 6 ~{EN}, 7 D0, 8 D1, 9 D2, 10 D3, 11 D4, 12 D5, 13 D6, 14 D7, 15 A, 16 K

## LCD16x2A
designator LCD?, comment LCD 16x2A
LCD dipslay 16 char, 2 line; Value: LCD16x2A
footprint LCD16X2 (LCD dipslay 16x2, 16 pin)
footprint LCD16X2N (LCD dipslay 16x2, 16 pin)
pins: 1 GND, 2 VDD, 3 VEE, 4 RS, 5 R/~{W}, 6 ~{EN}, 7 D0, 8 D1, 9 D2, 10 D3, 11 D4, 12 D5, 13 D6, 14 D7, 15 A, 16 K
text: 5V; Vs; |; 0V; R/W; E

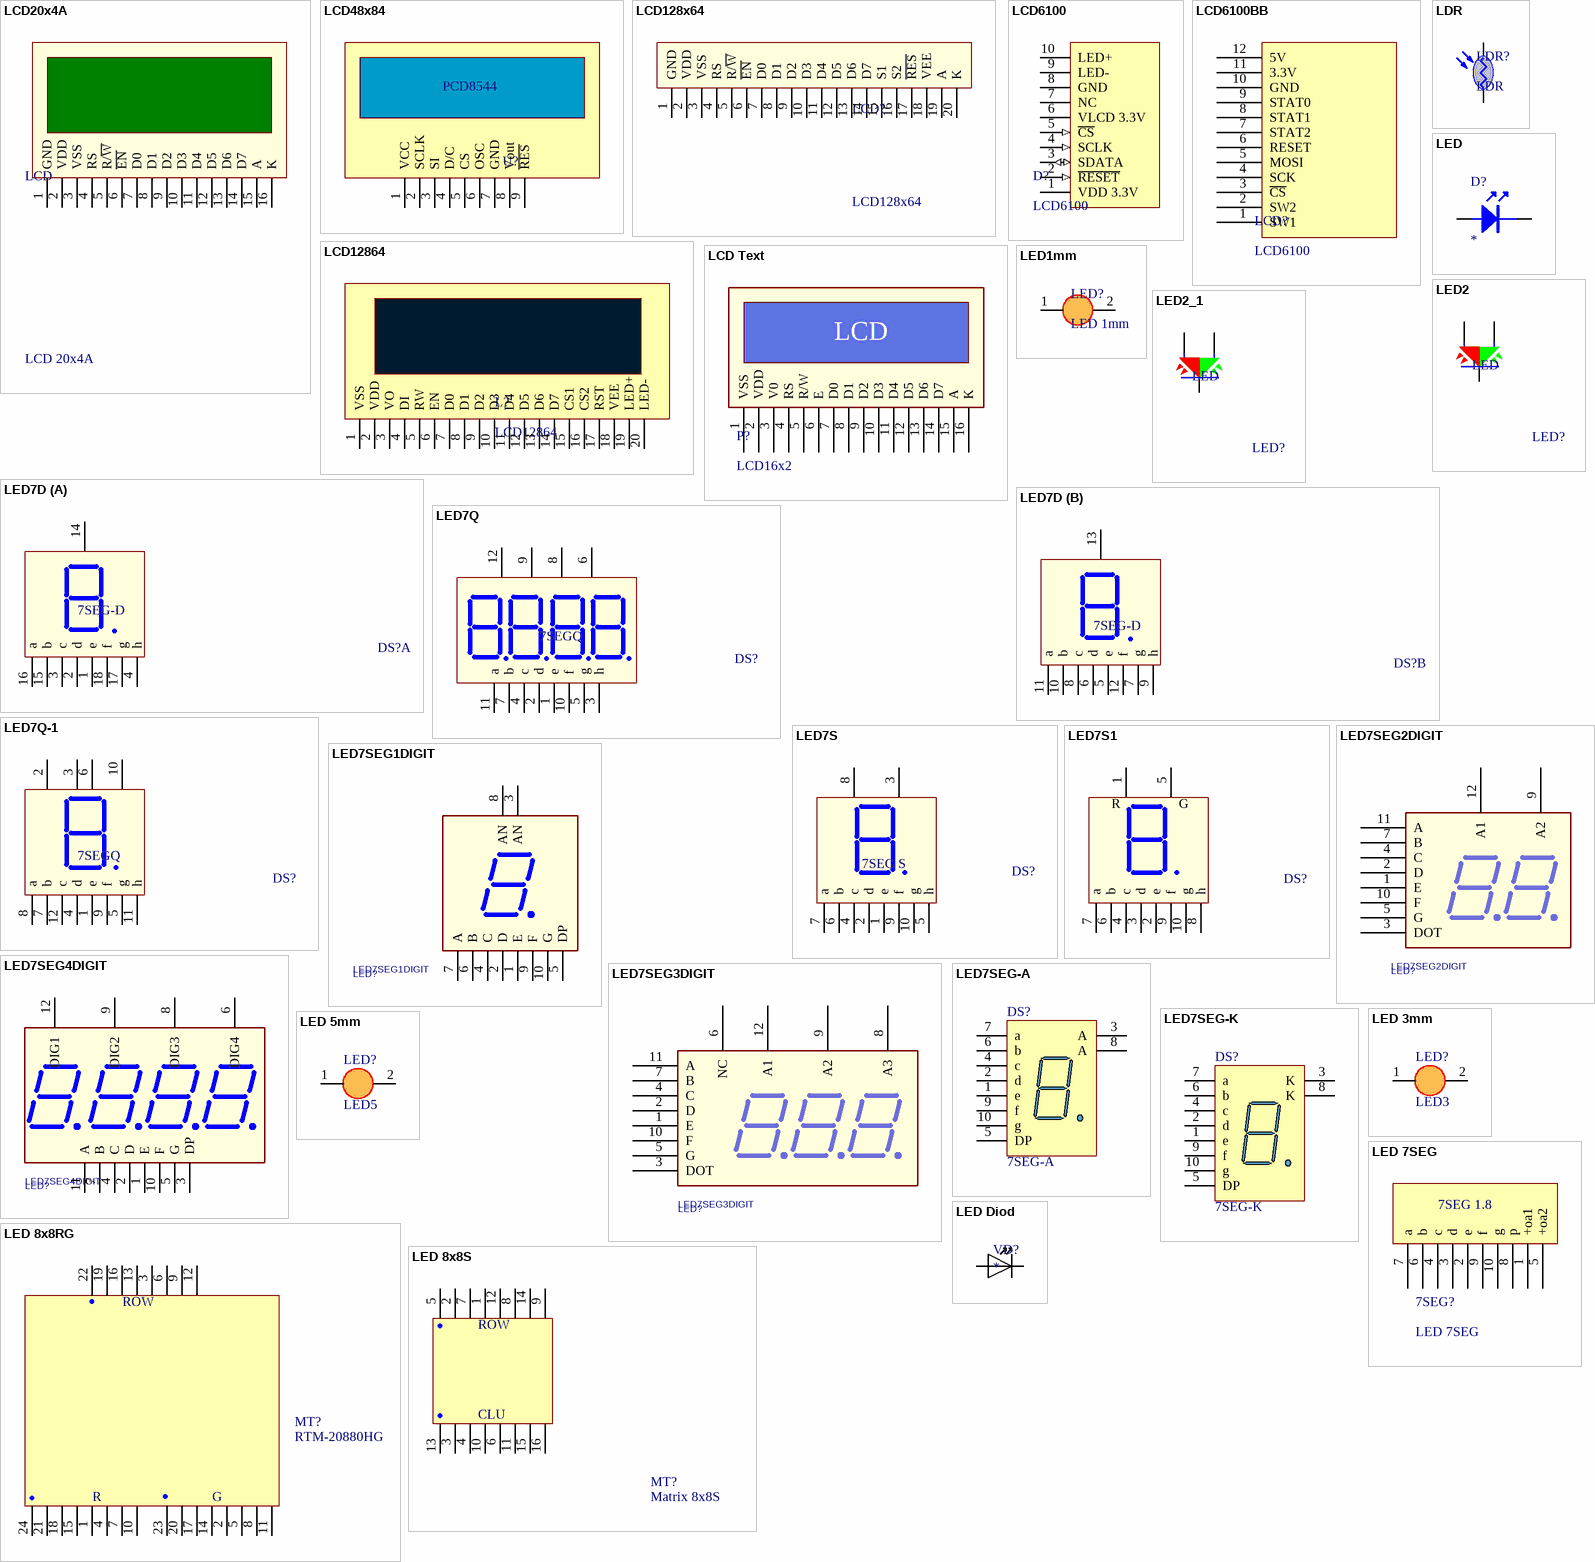
[diagram p34: symbols LCD20x4A to LED Diod]

## LCD20x4A
designator LCD, comment LCD 20x4A
LCD dipslay 20 char, 4 line; Value: Jum 40; Value: LCD 20x4A
footprint LCD20X4A (LCD dipslay 20x4, 16 pin)
pins: 1 GND, 2 VDD, 3 VSS, 4 RS, 5 R/~{W}, 6 ~{EN}, 7 D0, 8 D1, 9 D2, 10 D3, 11 D4, 12 D5, 13 D6, 14 D7, 15 A, 16 K

## LCD48x84
designator U?, comment PCD8544
LCD Graphic; Value: PCD8544
footprint CON9
pins: 1 VCC, 2 SCLK, 3 SI, 4 D/C, 5 CS, 6 OSC, 7 GND, 8 Vout, 9 ~{RES}

## LCD128x64
designator LCD?
LCD Graphic 128x64; Value: LCD 128x64
footprint LCD128x64 (LCD Graphic 128x64, 20 pin)
pins: 1 GND, 2 VDD, 3 VSS, 4 RS, 5 R/~{W}, 6 ~{EN}, 7 D0, 8 D1, 9 D2, 10 D3, 11 D4, 12 D5, 13 D6, 14 D7, 15 S1, 16 S2, 17 ~{RES}, 18 VEE, 19 A, 20 K

## LCD6100
designator D?
GLCD 132 pixel x 132 pixel - 4096 color
pins: 1 VDD 3.3V (power), 2 ~{RESET} (in), 3 SDATA (io), 4 SCLK (in), 5 ~{CS} (in), 6 VLCD 3.3V (power), 7 NC, 8 GND (power), 9 LED- (power), 10 LED+ (power)

## LCD6100BB
designator LCD?, comment LCD6100
footprint HDR1X12 (Connector; Header; 12 Position)
pins: 1 SW1, 2 SW2, 3 ~{CS}, 4 SCK, 5 MOSI, 6 RESET, 7 STAT2, 8 STAT1, 9 STAT0, 10 GND, 11 3.3V, 12 5V

## LCD12864
designator L?
footprint LCD12864
pins: 1 VSS, 2 VDD, 3 VO, 4 DI, 5 RW, 6 EN, 7 D0, 8 D1, 9 D2, 10 D3, 11 D4, 12 D5, 13 D6, 14 D7, 15 CS1, 16 CS2, 17 RST, 18 VEE, 19 LED+, 20 LED-

## LCD Text
designator P?, comment LCD16x2
footprint LCD16X2 (LCD 16x2)
footprint HDR1X16 (Connector; Header; 16 Position)
pins: 1 VSS, 2 VDD, 3 V0, 4 RS, 5 R/W, 6 E, 7 D0, 8 D1, 9 D2, 10 D3, 11 D4, 12 D5, 13 D6, 14 D7, 15 A, 16 K
text: LCD

## LDR
designator LDR?
Quang Tro
footprint CDS (Footprint not found)
footprint LDS (QUANG TRO)
pins: 1 A, 2 K

## LED
designator D?
footprint CAP10UF
footprint LED 0805
footprint LED 1206
pins: 1, 2

## LED1mm
designator LED?, comment LED 1mm
footprint HDR1X2
pins: 1 A, 2 K

## LED2
designator LED?, comment LED
LED 2 colour Green and Red; Value: LED 3 - 5 ly 2 Colour
footprint LED-32 (LED 3 PIN, 3ly Two colour)
footprint LED-52 (LED 3 PIN, 5 ly , Two colour)
pins: 1, 2, 3

## LED2_1
designator LED?, comment LED
LED 2 colour Green and Red; Value: LED 3 - 5 ly 2 Colour
footprint LED-32 (LED 3 PIN, 3ly Two colour)
footprint LED-52 (LED 3 PIN, 5 ly , Two colour)
pins: 1, 2, 3

## LED7D
designator DS?, comment 7SEG-D
Two 7 Seg Dipslay; Value: LED 7D SEG
footprint 7SEGD (DIP 18Leads; Body 24 x 15 mm; Pitch 0.5 mm)
part A pins: 1 e, 2 d, 3 c, 4 h, 14 V1, 15 b, 16 a, 17 g, 18 f
part B pins: 5 e, 6 d, 7 g, 8 c, 9 h, 10 b, 11 a, 12 f, 13 V2

## LED7Q
designator DS?, comment 7SEGQ
Four 7 Seg Dipslay; Value: LED 7Q SEG
footprint 7SEGQ (DIP 12 Leads; Body 48 x 20 mm; Pitch 0.5 mm)
pins: 1 e, 2 d, 3 h, 4 c, 5 g, 6 V4, 7 b, 8 V3, 9 V2, 10 f, 11 a, 12 V1

## LED7Q-1
designator DS?, comment 7SEGQ
Four 7 Seg Dipslay; Value: LED 7Q SEG
footprint 7SEGQ (DIP 12 Leads; Body 48 x 20 mm; Pitch 0.5 mm)
pins: 1 e, 2 V1, 3 V2, 4 d, 5 g, 6 V3, 7 b, 8 a, 9 f, 10 V4, 11 h, 12 c

## LED7S
designator DS?, comment 7SEG S
Single 7 Seg Dipslay; Value: LED 7S SEG
footprint 7SEGS (DIP 10 Leads; Body 12 x 15 mm; Pitch 0.5 mm)
pins: 1 e, 2 d, 3 Vcc, 4 c, 5 h, 6 b, 7 a, 8 Vcc, 9 f, 10 g

## LED7S1
designator DS?, comment 7SEG S  (value not drawn)
Single 7 Seg Dipslay 29x41 mm; Value: LED 7S SEG
footprint 7SEG_29x41 (DIP 10 Leads; Body 29 x 41 mm; Pitch 0.5 mm)
footprint 7SEG_37x55 (DIP 10 Leads; Body 29 x 41 mm; Pitch 0.5 mm)
pins: 1 R, 2 e, 3 d, 4 c, 5 COM, 6 b, 7 a, 8 h, 9 f, 10 g
text: G

## LED7SEG1DIGIT
designator LED?
footprint LED 7SEG 1DIGIT
pins: 1 E, 2 D, 3 AN, 4 C, 5 DP, 6 B, 7 A, 8 AN, 9 F, 10 G

## LED7SEG2DIGIT
designator LED?
footprint Led 7seg 3 digit (DIP; 14 Leads (2 Absent); Row Spacing 7.62 mm; Pitch 2.54 mm)
pins: 1 E, 2 D, 3 DOT, 4 C, 5 G, 7 B, 9 A2, 10 F, 11 A, 12 A1

## LED7SEG3DIGIT
designator LED?
footprint Led 7seg 3 digit (DIP; 14 Leads (2 Absent); Row Spacing 7.62 mm; Pitch 2.54 mm)
pins: 1 E, 2 D, 3 DOT, 4 C, 5 G, 6 NC, 7 B, 8 A3, 9 A2, 10 F, 11 A, 12 A1

## LED7SEG4DIGIT
designator LED?
footprint LED 7SEG 4 DIGIT (LED 7SEG 4DIGIT)
pins: 1 E, 2 D, 3 DP, 4 C, 5 G, 6 DIG4, 7 B, 8 DIG3, 9 DIG2, 10 F, 11 A, 12 DIG1

## LED7SEG-A
designator DS?, comment 7SEG-A
14.2 mm General Purpose Blue 7-Segment Display: CA, RH DP, Gray Surface; MinimumIntensity: 2020 ucd; Note: IF = 10 mA; Published: 8-Jun-2000; LatestRevisionDate: 17-Dec-2003; LatestRevisionNote: Schematic revised, PCB Footprint replaced.; DatasheetDocument: 24-Sep-2002; PackageDocument: 24-Sep-2002; PackageReference: H; Publisher: Altium Limited; Colour: Blue; ComponentLink1Description: Manufacturer Link; ComponentLink1URL: http://www.agilent.com/
footprint LED7SEG
pins: 1 e "Cathode", 2 d "Cathode", 3 A "Common Anode", 4 c "Cathode", 5 DP "Cathode", 6 b "Cathode", 7 a "Cathode", 8 A "Common Anode", 9 f "Cathode", 10 g "Cathode"

## LED7SEG-K
designator DS?, comment 7SEG-K
14.2 mm General Purpose Blue 7-Segment Display: CC, RH DP, Gray Surface; MinimumIntensity: 2020 ucd; Note: IF = 10 mA; Published: 8-Jun-2000; LatestRevisionDate: 17-Dec-2003; LatestRevisionNote: Schematic revised, PCB Footprint replaced.; DatasheetDocument: 24-Sep-2002; PackageDocument: 24-Sep-2002; PackageReference: H; Publisher: Altium Limited; Colour: Blue; ComponentLink1Description: Manufacturer Link; ComponentLink1URL: http://www.agilent.com/
footprint LED7SEG
pins: 1 e "Anode", 2 d "Anode", 3 K "Common Cathode", 4 c "Anode", 5 DP "Anode", 6 b "Anode", 7 a "Anode", 8 K "Common Cathode", 9 f "Anode", 10 g "Anode"

## LED 3mm
designator LED?, comment LED3
LED 3mm
footprint LED3mm
pins: 1 A, 2 K

## LED 5mm
designator LED?, comment LED5
LED 5mm
footprint LED-5 GRe (LED 2 PIN, 5 ly , Only colour,pin to pin 100mil)
pins: 1 A, 2 K

## LED 7SEG
designator 7SEG?
LED 7 THANH
footprint 7SEG_37x55 (DIP 10 Leads; Body 29 x 41 mm; Pitch 0.5 mm)
footprint LED 7SEG 38X56
footprint LED 7SEG 30x44
pins: 1 +oa1, 2 e, 3 d, 4 c, 5 +oa2, 6 b, 7 a, 8 p, 9 f, 10 g
text: 7SEG 1.8

## LED 8x8RG
designator MT?, comment RTM-20880HG
Matrix 8x8, Two colour; Value: Matrix 8x8 two colour
footprint 8x8RG (Matran 8x8 2mau,Body 60 X 60mm)
pins: 1 R5, 2 G5, 3 H5, 4 R6, 5 G6, 6 H6, 7 R7, 8 G7, 9 H7, 10 R8, 11 G8, 12 H8, 13 H4, 14 G4, 15 R4, 16 H3, 17 G3, 18 R3, 19 H2, 20 G2, 21 R2, 22 H1, 23 G1, 24 R1
text: ROW; R; G

## LED 8x8S
designator MT?, comment Matrix 8x8S
Matrix 8x8,  Single colour; Value: Matrix 8x8S
footprint 8x8S (Matran 8x8, Body 60 X 60mm)
pins: 1 H4, 2 H2, 3 C2, 4 C3, 5 H1, 6 C5, 7 H3, 8 H6, 9 H8, 10 C4, 11 C6, 12 H5, 13 C1, 14 H7, 15 C7, 16 C8
text: ROW; CLU

## LED Diod
designator VD?
pins: A 1, K 2

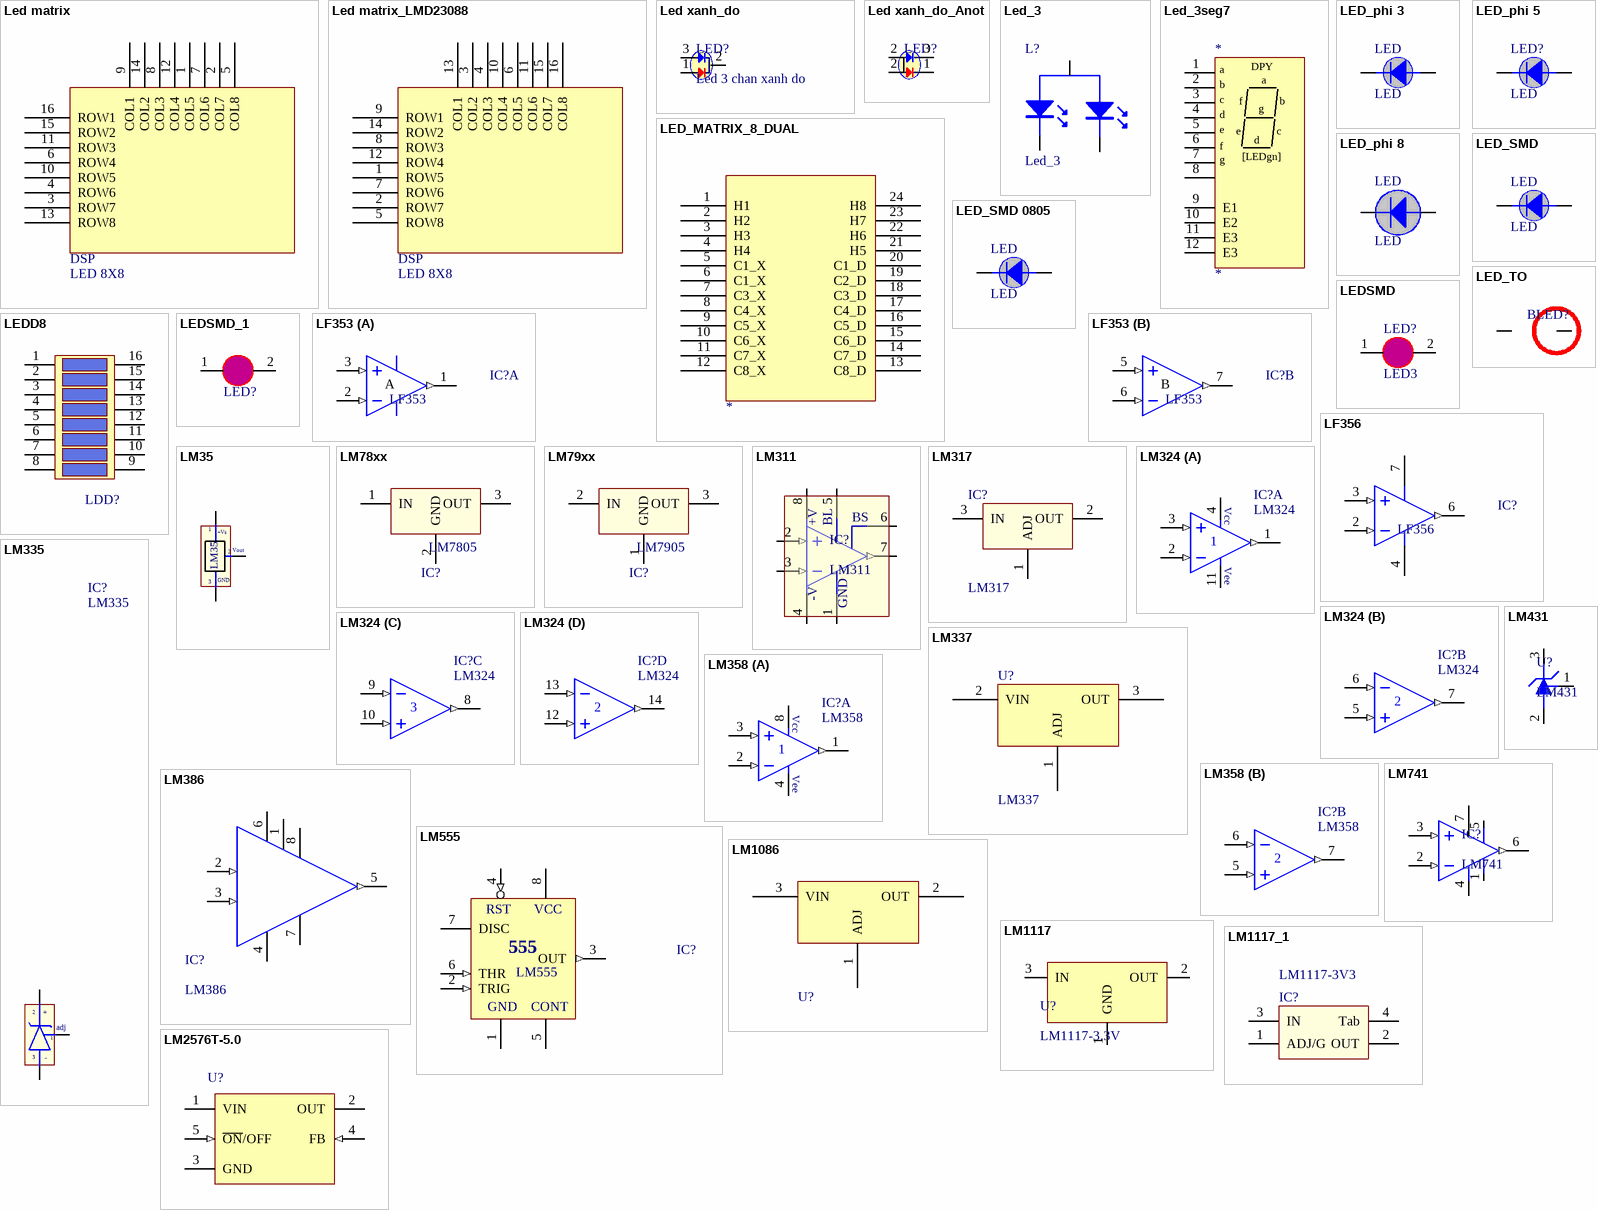
[diagram p35: symbols Led matrix to LM2576T-5.0]

## Led matrix
designator DSP, comment LED 8X8
LED MATRIX
footprint Matrix SBM1388 (Matrix 8x8)
pins: 1 COL5, 2 COL7, 3 ROW7, 4 ROW6, 5 COL8, 6 ROW4, 7 COL6, 8 COL3, 9 COL1, 10 ROW5, 11 ROW3, 12 COL4, 13 ROW8, 14 COL2, 15 ROW2, 16 ROW1

## Led matrix_LMD23088
designator DSP, comment LED 8X8
LED MATRIX
footprint Matrix LMD23088 (Matrix 8x8)
pins: 1 ROW5, 2 ROW7, 3 COL2, 4 COL3, 5 ROW8, 6 COL5, 7 ROW6, 8 ROW3, 9 ROW1, 10 COL4, 11 COL6, 12 ROW4, 13 COL1, 14 ROW2, 15 COL7, 16 COL8

## Led xanh_do
designator LED?, comment Led 3 chan xanh do
LED 3 chan xanh + do
footprint LED_phi 5_Xanh_Do (LED phi 5mm 2 mau xanh va do)
pins: 1 D, 2 Katot, 3 X

## Led xanh_do_Anot
designator LED?, comment Led 3 chan xanh do Anot  (value not drawn)
LED 3 chan xanh + do Anot
footprint LED_phi 5_Xanh_Do (LED phi 5mm 2 mau xanh va do)
footprint LED_phi 5_Xanh_Do_2 (LED phi 5mm 2 mau xanh va do doc lap)
pins: 1 D, 2 Katot, 2 Katot, 3 X

## Led_3
designator L?
footprint 3DIP
pins: 1, 2, 3

## Led_3seg7
designator *
pins: 1 a, 2 b, 3 c, 4 d, 5 e, 6 f, 7 g, 8 DP, 9 E1, 10 E2, 11 E3, 12 E3
text: DPY; [LEDgn]

## LED_MATRIX_8_DUAL
designator ?
pins: 1 H1, 2 H2, 3 H3, 4 H4, 5 C1_X, 6 C1_X, 7 C3_X, 8 C4_X, 9 C5_X, 10 C6_X, 11 C7_X, 12 C8_X, 13 C8_D, 14 C7_D, 15 C6_D, 16 C5_D, 17 C4_D, 18 C3_D, 19 C2_D, 20 C1_D, 21 H5, 22 H6, 23 H7, 24 H8

## LED_phi 3
designator LED, comment LED
footprint LED_phi 3 (LED phi 3)
pins: 1 anot, 2 Katot

## LED_phi 5
designator LED?, comment LED
footprint LED_phi 5 (LED phi 5mm)
pins: 1 anot, 2 Katot

## LED_phi 8
designator LED, comment LED
footprint LED_phi 8 (LED phi 8mm)
pins: 1 anot, 2 Katot

## LED_SMD
designator LED, comment LED
footprint LED_SMD (LED SMD)
pins: 1 anot, 2 Katot

## LED_SMD 0805
designator LED, comment LED
footprint LED_SMD 0805 (LED SMD)
pins: 1 anot, 2 Katot

## LED_TO
designator BLED?, comment LED TO  (value not drawn)
pins: 1 A, 2 K

## LEDD8
designator LDD?, comment LED DIP 8  (value not drawn)
Value: LED DIP 8
footprint DIP16/W0.3K (16 PIN, W 300mil, Pin to pin 100mil For Switch)
pins: 1, 2, 3, 4, 5, 6, 7, 8, 9, 10, 11, 12, 13, 14, 15, 16

## LEDSMD
designator LED?, comment LED3
LED 3mm
footprint LED0805 (Chip Resistor; Body 2.0 x 1.3 mm (LxW typ))
pins: 1 A, 2 K

## LEDSMD_1
designator LED?, comment LED3  (value not drawn)
LED 3mm
footprint LED0805 (Chip Resistor; Body 2.0 x 1.3 mm (LxW typ))
pins: 1 A, 2 K

## LF353
designator IC?
Wide-Bandwidth Dual JFET Input Operational Amplifier; Published: 15-Apr-2002; LatestRevisionDate: 06-Jun-2005; LatestRevisionNote: Stylized 3D Model Added.; DatasheetDocument: Apr-1998; PackageDocument: Sep-1997; Publisher: Altium Limited; ComponentLink1Description: Manufacturer Link; ComponentLink1URL: http://www.national.com/; ComponentLink2Description: Datasheet; ComponentLink2URL: http://www.national.com/ds.cgi/LF/LF353.pdf; ComponentLink3Description: URL Link1; ComponentLink3URL: http://www.national.com/pf/LF/LF353.html; Value: LF353
footprint DIP8 (W.300/L.400)
part A pins: 1 OUT (out), 2 IN- (in), 3 IN+ (in)
part B pins: 5 IN+ (in), 6 IN- (in), 7 OUT (out)
part A text: A
part B text: B

## LF356
designator IC?
Wide-Bandwidth Single JFET Input Operational Amplifier; Published: 15-Apr-2002; LatestRevisionDate: 06-Jun-2005; LatestRevisionNote: Stylized 3D Model Added.; DatasheetDocument: Apr-1998; PackageDocument: Sep-1997; Publisher: Altium Limited; ComponentLink1Description: Manufacturer Link; ComponentLink1URL: http://www.national.com/; ComponentLink2Description: Datasheet; ComponentLink2URL: http://www.national.com/ds.cgi/LF/LF353.pdf; ComponentLink3Description: URL Link1; ComponentLink3URL: http://www.national.com/pf/LF/LF353.html; Value: LF356
footprint DIP8 (W.300/L.400)
pins: 2 IN- (in), 3 IN+ (in), 4 V- (power), 6 OUT (out), 7 V+ (power)

## LM35
designator U?
Teminal; Value: LM35
footprint QTO-92 (TO-92)
pins: 1 +Vs, 2 Vout, 3 -
text: GND

## LM78xx
designator IC?, comment LM7805
On ap +, from + 5 to + 24VDC; Value: LM7805
footprint QTO-220 (TO-220 - 1-2-3)
footprint QTO-220H3 (TO-220 1-2-3)
footprint QTO-220NH (TO-220 - 1-2-3)
pins: 1 IN, 2 GND, 3 OUT

## LM79xx
designator IC?, comment LM7905
On ap -, from - 5 to - 24VDC; Value: LM7905
footprint QTO-220 (TO-220 - 1-2-3)
footprint QTO-220H3 (TO-220 1-2-3)
footprint QTO-220NH (TO-220 - 1-2-3)
pins: 1 GND, 2 IN, 3 OUT

## LM311
designator IC?
Voltage Comparator; Value: DIP 8; Value: LM311
footprint DIP8 (W.300/L.400)
footprint SO-8 (8-Pin Small Outline Integrated Circuit 1.27 mm Pitch, IPC Medium Density)
pins: 1 F2 (power), 2 IN+ (in), 3 IN- (in), 4 GND (power), 5 F1 (power), 6 F2 (power), 7 OUT (out), 8 V+ (power)
text: +V; BL; BS; -V

## LM317
designator IC?
Adj Voltage +1.2 -> +37V; Value: LM317
footprint QTO-220 (TO-220 - 1-2-3)
footprint TO-220
pins: 1 ADJ, 2 OUT, 3 IN

## LM324
designator IC?
Op x 4; Value: LM324
footprint DIP14 (W.300/L.900)
part A pins: 1 OUT (out), 2 IN- (in), 3 IN+ (in), 4 V+ (power), 11 V- (power)
part B pins: 5 IN+ (in), 6 IN- (in), 7 OUT (out)
part C pins: 8 OUT (out), 9 IN- (in), 10 IN+ (in)
part D pins: 12 IN+ (in), 13 IN- (in), 14 OUT (out)
part A text: Vcc; Vee

## LM335
designator IC?
Teminal; Value: LM335
footprint QTO-92 (TO-92)
pins: 1 adj, 2 +, 3 -

## LM337
designator U?
Terminal Adjustable Negative Regulators; Text Field1: 60; Text Field2: 30
footprint TO-220
pins: 1 ADJ, 2 VIN, 3 OUT

## LM358
designator IC?
Op x 2; Value: LM358
footprint DIP8 (W.300/L.400)
part A pins: 1 OUT (out), 2 IN- (in), 3 IN+ (in), 4 V- (power), 8 V+ (power)
part B pins: 5 IN+ (in), 6 IN- (in), 7 OUT (out)
part A text: Vcc; Vee

## LM386
designator IC?
Low-Power Dual Operational Amplifier; Value: LM386
pins: 1 GAIN, 2 IN- (in), 3 IN+ (in), 4 GND, 5 OUT (out), 6 Vs, 7 BYPASS, 8 GAIN

## LM431
designator U?
DIODE ZENER VAR
footprint TO92 (TO, Flat Index; 3 In-Line, Axial Leads; Body Dia. 4.8mm)
pins: 1, 2, 3

## LM555
designator IC?
Timer Circuits; Value: LM555
footprint DIP8 (W.300/L.400)
pins: 1 GND (power), 2 TRIG (in), 3 OUT (out), 4 RST (in), 5 CONT, 6 THR (in), 7 DISC (oc), 8 VCC (power)
text: 555

## LM741
designator IC?
Single OA
footprint DIP8 (W.300/L.400)
pins: 1 Vos, 2 IN- (in), 3 IN+ (in), 4 -V, 5 Vos, 6 OUT (out), 7 +V

## LM1086
designator U?  (value not drawn)
LOW DROPOUT VOLTAGE REGULATOR; Value: LM1086
footprint TO-220
pins: 1 ADJ, 2 OUT, 3 VIN

## LM1117
designator U?, comment LM1117-3.3V
800mA Low-Dropout Linear Regulator; Creator: Nguyen Ba Bien; Website: http://group3i.net
footprint LM1117-SOP
footprint SOT223-4N (SOT223, 4-Leads, Body 6.5x3.5mm, Pitch 2.3mm, Lead Span 7mm, IPC Medium Density)
pins: 1 GND, 2 OUT, 3 IN

## LM1117_1
designator IC?, comment LM1117-3V3
3v3; Value: LM317
footprint SOT223-4N (SOT223, 4-Leads, Body 6.5x3.5mm, Pitch 2.3mm, Lead Span 7mm, IPC Medium Density)
pins: 1 ADJ/G, 2 OUT, 3 IN, 4 Tab

## LM2576T-5.0
designator U?
SIMPLE SWITCHER; 3A Step-Down Voltage Regulator; PartNumber: LM2576T-5.0; Manufacturer: National Semiconductor; PackageTopMarking: NSUZXYTT*LM2576T*-5.0 P+; PowerWise: N; FirstPublished: 4-Dec-2008; DatasheetVersion: Aug-2004; PackageVersion: revJ, Jan-1992; PackageReference: T05A; Publisher: Altium Limited; PackageDescription: TO-220, Molded, 5 Lead, Straight; CompType: Switcher; RoHS: O; PinCount: 5; DigiKeyPartNumber: LM2576T-5.0-ND; Code_JEDEC: TO-220-AB; ComponentLink1Description: LM2576 Datasheet; ComponentLink1URL: http://www.national.com/ds/LM/LM2576.pdf; ComponentLink2Description: LM2576 Web Page; ComponentLink2URL: http://www.national.com/pf/LM/LM2576.html; ComponentLink3Description: T05A Package Page; ComponentLink3URL: http://www.national.com/packaging/folders/t05a.html
footprint LM2576t
pins: 1 VIN (power), 2 OUT (power), 3 GND (power), 4 FB (in), 5 ~{ON}/OFF (in)

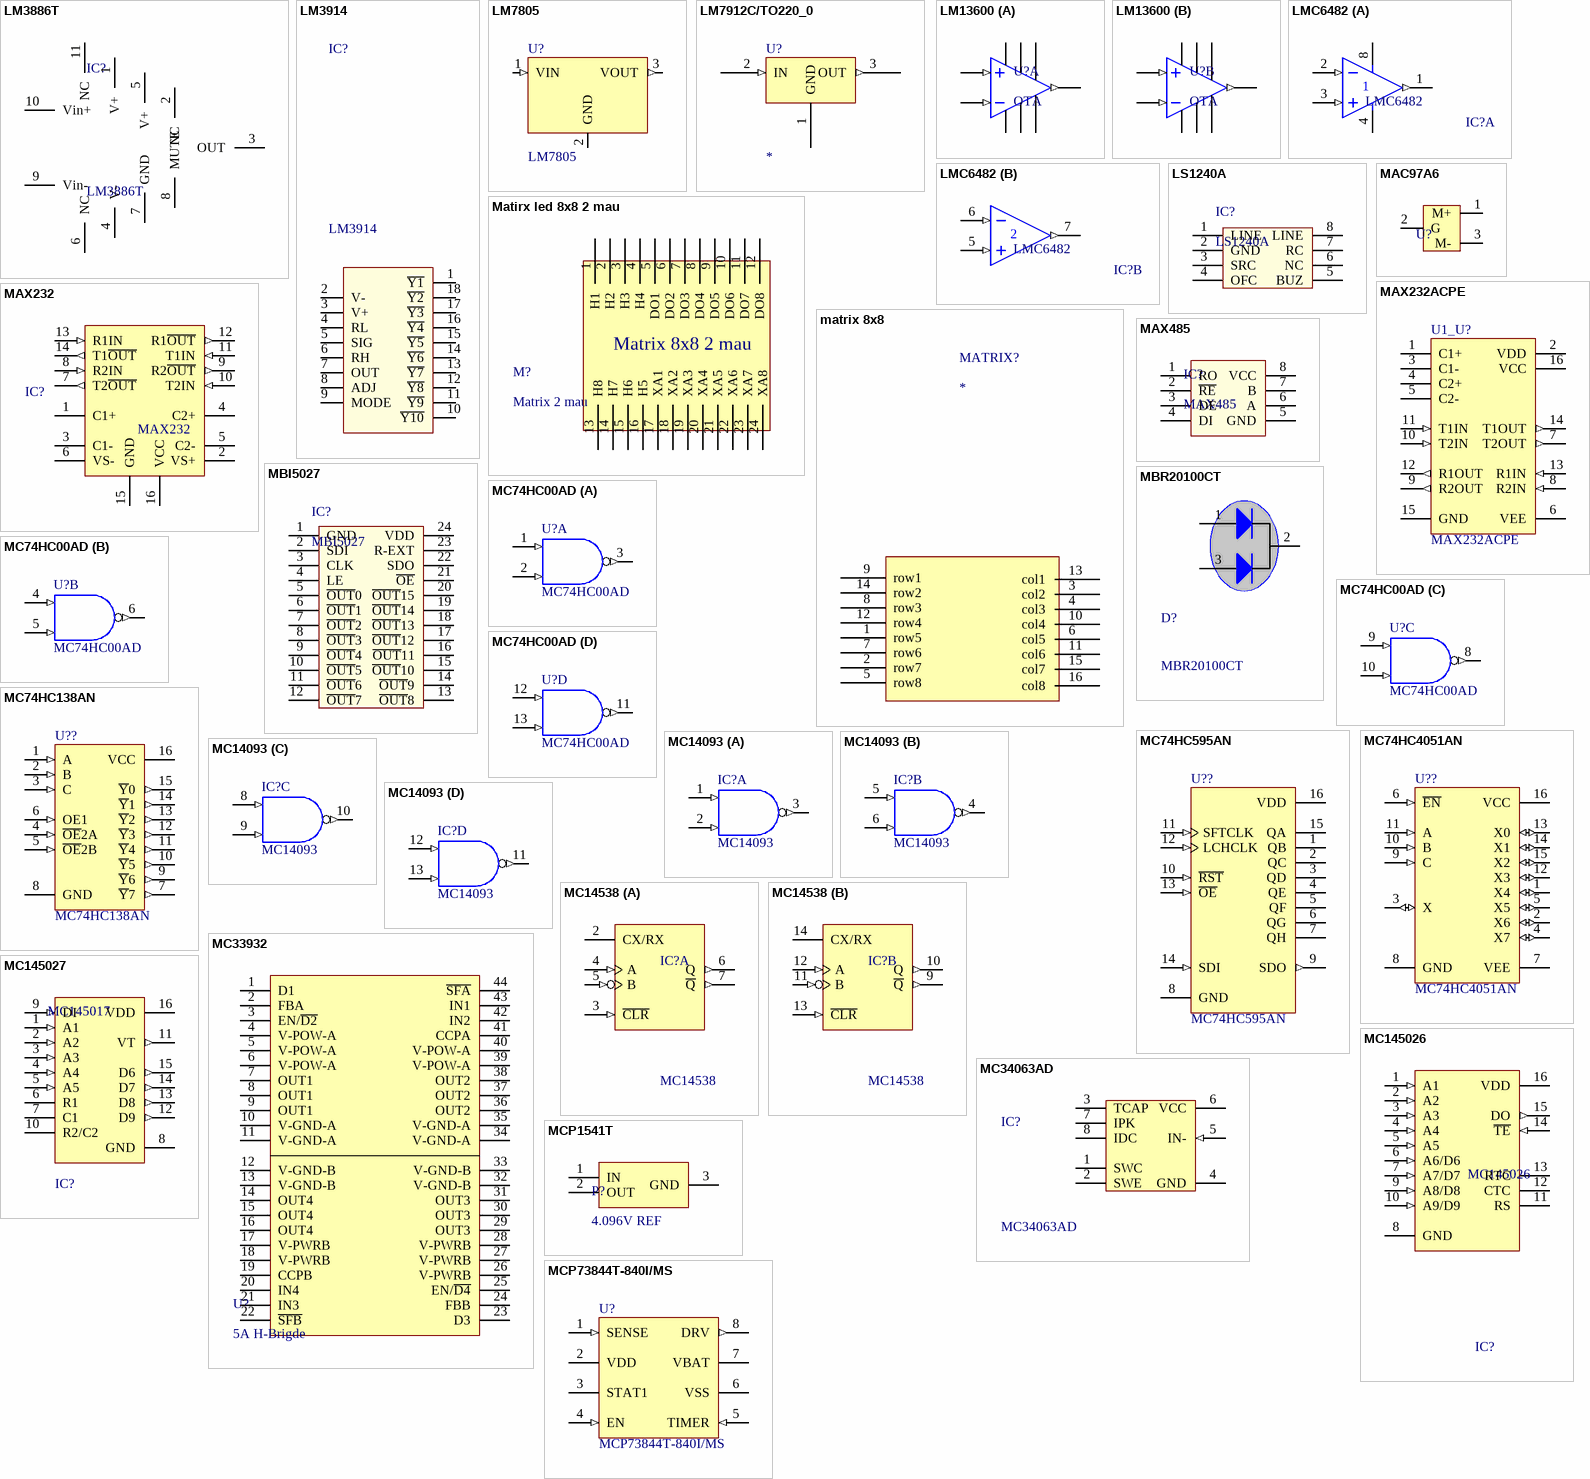
[diagram p36: symbols LM3886T to MCP73844T-840I/MS]

## LM3886T
designator IC?
2 x 10 W BTL stereo car radio power amplifier with speaker protection; Value: LM3886T
footprint DIP11/S1 (11 Pin so le hai hang cach nhau 200mil., Pin to pin 100mil)
pins: 1 V+, 2 NC, 3 OUT, 4 V-, 5 V+, 6 NC, 7 GND, 8 MUTE, 9 Vin-, 10 Vin+, 11 NC

## LM3914
designator IC?
Dot/Bar Display Driver; Value: LM3914
footprint DIP18 (18 PIN, W 300mil, Pin to pin 100mil)
pins: 1 ~{Y1}, 2 V-, 3 V+, 4 RL, 5 SIG, 6 RH, 7 OUT, 8 ADJ, 9 MODE, 10 ~{Y10}, 11 ~{Y9}, 12 ~{Y8}, 13 ~{Y7}, 14 ~{Y6}, 15 ~{Y5}, 16 ~{Y4}, 17 ~{Y3}, 18 ~{Y2}

## LM7805
designator U?
TO-220; Text Field1: 70; Text Field2: 30
footprint TO-220
footprint QTO-220NH (TO-220 - 1-2-3)
footprint QTO-220H3 (TO-220 1-2-3)
pins: 1 VIN (in), 2 GND (power), 3 VOUT (out)

## LM7912C/TO220_0
designator U?
NEGATIVE VOLTAGE REGULATOR; Text Field1: 60; Text Field2: 30
footprint TO-220
pins: 1 GND (power), 2 IN (in), 3 OUT (out)

## LM13600
designator U?, comment OTA
footprint dip16
footprint DIP16
footprint pdip16
part A pins: 1, 2, 3 (in), 4 (in), 5 (out), 6, 7, 8, 11
part B pins: 6, 9, 10, 11, 12 (out), 13 (in), 14 (in), 15, 16

## LMC6482
designator IC?
Dual OA; Value: LMC6482
footprint DIP8 (W.300/L.400)
part A pins: 1 OUT (out), 2 IN- (in), 3 IN+ (in), 4 V- (power), 8 V+ (power)
part B pins: 5 IN+ (in), 6 IN- (in), 7 OUT (out)

## LS1240A
designator IC?
Electronic Two-Tone Ringer
footprint DIP8 (W.300/L.400)
pins: 1 LINE, 2 GND, 3 SRC, 4 OFC, 5 BUZ, 6 NC, 7 RC, 8 LINE

## MAC97A6
designator U?  (value not drawn)
pins: 1 M+, 2 G, 3 M-

## Matirx led 8x8 2 mau
designator M?, comment Matrix 2 mau
pins: 1 H1, 2 H2, 3 H3, 4 H4, 5 DO1, 6 DO2, 7 DO3, 8 DO4, 9 DO5, 10 DO6, 11 DO7, 12 DO8, 13 H8, 14 H7, 15 H6, 16 H5, 17 XA1, 18 XA2, 19 XA3, 20 XA4, 21 XA5, 22 XA6, 23 XA7, 24 XA8
text: Matrix 8x8 2 mau

## matrix 8x8
designator MATRIX?
footprint matrix8x8
pins: 1 row5, 2 row7, 3 col2, 4 col3, 5 row8, 6 col5, 7 row6, 8 row3, 9 row1, 10 col4, 11 col6, 12 row4, 13 col1, 14 row2, 15 col7, 16 col8

## MAX232
designator IC?
Dual EIA-232 Driver/Receiver; Value: MAX232
footprint DIP16 (16 PIN, W 300mil, Pin to pin 100mil)
footprint SO-G16 (Small Outline; 16 Leads; Body Width 3.9 mm; Pitch 1.27 mm)
pins: 1 C1+, 2 VS+ (power), 3 C1-, 4 C2+, 5 C2-, 6 VS- (power), 7 T2~{OUT} (out), 8 R2IN (in), 9 R2~{OUT} (out), 10 T2IN (in), 11 T1IN (in), 12 R1~{OUT} (out), 13 R1IN (in), 14 T1~{OUT} (out), 15 GND (power), 16 VCC (power)

## MAX232ACPE
designator U1_U?
+5V Powered, Multi-Channel RS-232 Driver/Receiver; Published: 16-Jan-2001; LatestRevisionDate: 06-Jun-2005; LatestRevisionNote: Stylized 3D Model Added.; PackageVersion: 1997; PackageReference: PE16A; Publisher: Altium Limited; PackageDescription: DIP; 16 Leads; Row Spacing 7.62 mm; Pitch 2.54 mm; Code_JEDEC: MS-001-BB; ComponentLink1Description: Manufacturer Link; ComponentLink1URL: http://www.maxim-ic.com/; ComponentLink2Description: Datasheet; ComponentLink2URL: http://pdfserv.maxim-ic.com/en/ds/MAX220-MAX249.pdf
footprint DIP.100/16/W.300/L.900
pins: 1 C1+, 2 VDD (power), 3 C1-, 4 C2+, 5 C2-, 6 VEE (power), 7 T2OUT (out), 8 R2IN (in), 9 R2OUT (out), 10 T2IN (in), 11 T1IN (in), 12 R1OUT (out), 13 R1IN (in), 14 T1OUT (out), 15 GND (power), 16 VCC (power)

## MAX485
designator IC?
RS232 - RS485 (Same sn75176)
footprint DIP8 (W.300/L.400)
footprint SO-8 (8-Pin Small Outline Integrated Circuit 1.27 mm Pitch, IPC Medium Density)
pins: 1 RO "Receiver Output", 2 ~{RE} "Receiver Enable Output", 3 DE "Driver Enable Output", 4 DI "Driver Input", 5 GND, 6 A "RI & NoneDO", 7 B "NoneDI", 8 VCC

## MBI5027
designator IC?
16 bit Constant Current LED; Creat by: VanDungEvn@Gmail.com; Compoment same: SM16126
footprint SOP_24M_127 (SOP, 24-Leads, Body 15.6x8.1mm, Pitch 1.27mm, IPC Low Density)
pins: 1 GND, 2 SDI, 3 CLK, 4 LE, 5 ~{OUT}0, 6 ~{OUT}1, 7 ~{OUT}2, 8 ~{OUT}3, 9 ~{OUT}4, 10 ~{OUT}5, 11 ~{OUT}6, 12 ~{OUT}7, 13 ~{OUT}8, 14 ~{OUT}9, 15 ~{OUT}10, 16 ~{OUT}11, 17 ~{OUT}12, 18 ~{OUT}13, 19 ~{OUT}14, 20 ~{OUT}15, 21 ~{OE}, 22 SDO, 23 R-EXT, 24 VDD

## MBR20100CT
designator D?
SWITCHMODE™  Power Rectifiers; Value: MBR2080CT, MBR2090CT,  MBR20100CT
pins: 1 A1, 2 K, 3 A2, 4 K hidden

## MC74HC00AD
designator U?
Quad 2-Input NAND Gate; PackageDocument: 1991; Published: 17-Jul-2002; DatasheetDocument: 1989; PackageReference: 751A-02; Publisher: Altium Limited
footprint DO14
signal-integrity model MC74HC00AD
footprint DIP14 (W.300/L.900)
pins on every part: 7 GND (power) hidden to GND, 14 VDD (power) hidden to VDD
part A pins: 1 A (in), 2 B (in), 3 Y (out)
part B pins: 4 A (in), 5 B (in), 6 Y (out)
part C pins: 8 Y (out), 9 A (in), 10 B (in)
part D pins: 11 Y (out), 12 A (in), 13 B (in)